# Altium schematic symbol library connector.SchLib: 62 symbols
Pins are listed as number, name and electrical type; pins without a type are passive.

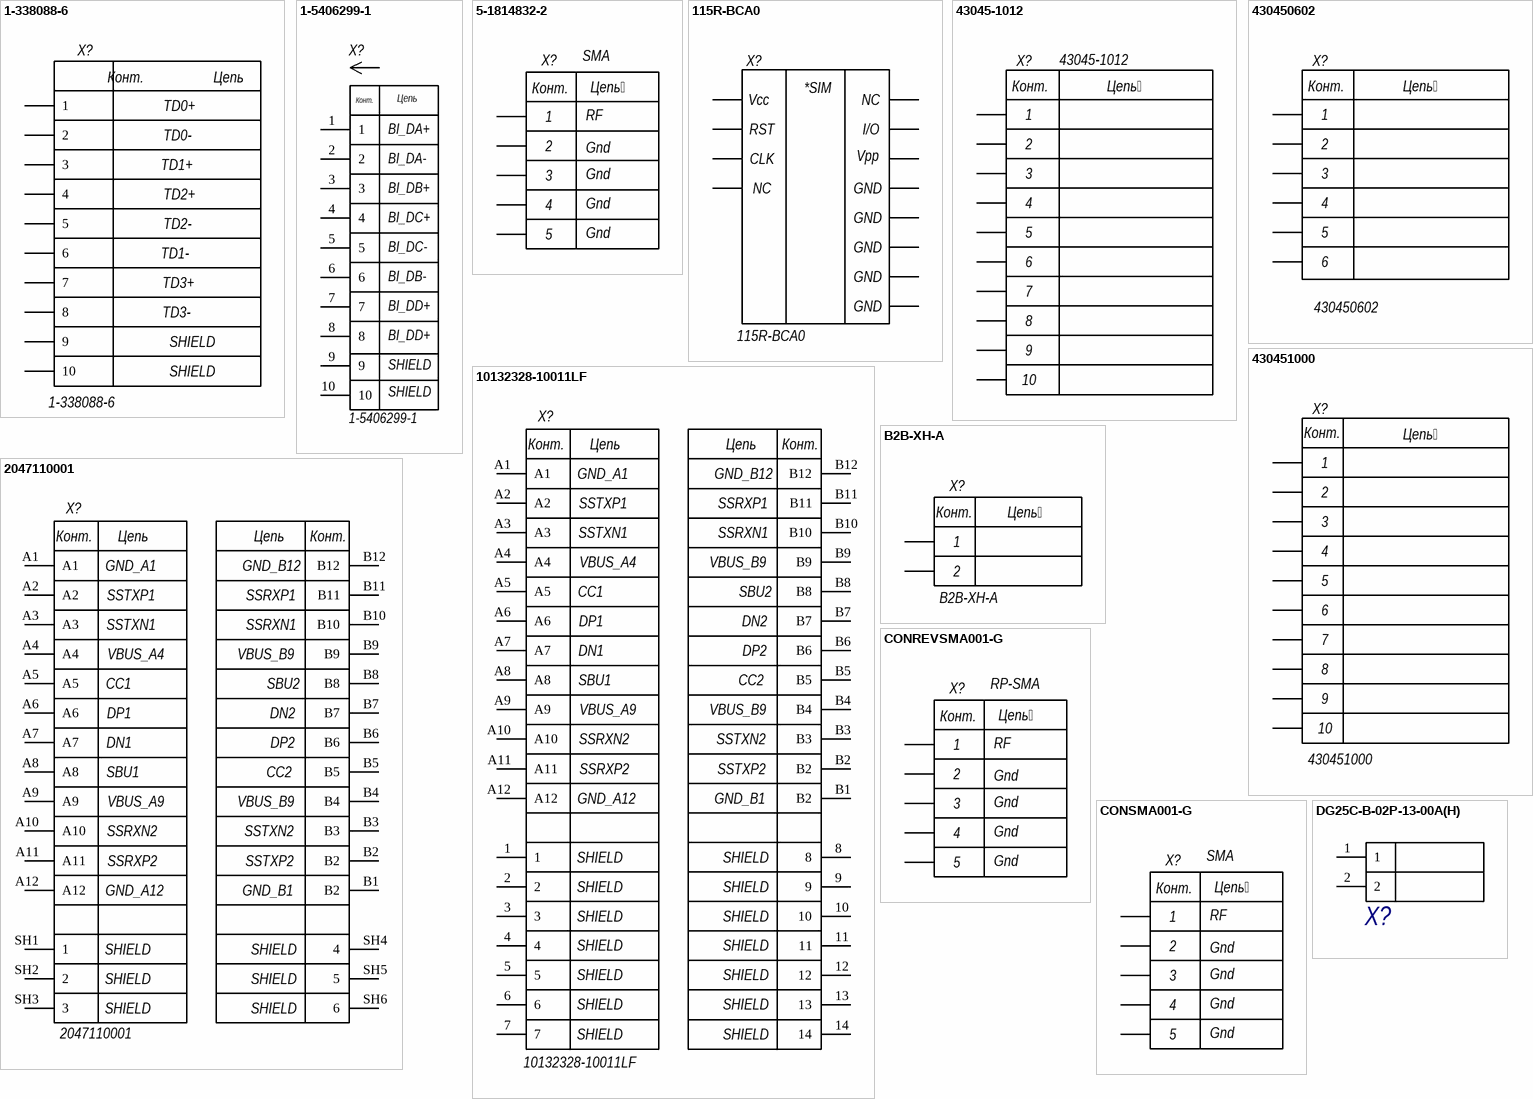
[diagram p0: symbols 1-338088-6 to DG25C-B-02P-13-00A(H)]

## 1-338088-6
designator X?
1-338088-6. RJ45 Connectors, RJ45, Single Port; Manufacturer: CONNFLY Elec; BOM1: RJ45 1-338088-6; ValueBOM: 1-338088-6   CONNFLY Elec; Part Number: 1-338088-6; BOM2: RJ45 1-338088-6; Value: 1-338088-6; Package: RJ-45
footprint AMPHENOL_RJE23-188-1317-T
pins: 1, 2, 3, 4, 5, 6, 7, 8, SH1 9, SH2 10
text: Конт.; Цепь; TD0+; TD0-; TD1+; TD2+; TD2-; TD1-; TD3+; TD3-; SHIELD

## 1-5406299-1
designator X?
1-5406299-1 Tab Down Single Port RJ45 Modular Jack Without LEDs LPJE160CNL; Published: 07.03.2013; Publisher: Andrew Danich; Type: Вилка; Vendor Code: *; Value: 1-5406299-1
footprint DS1126
footprint 5406299_TYCO
pins: 1, 2, 3, 4, 5, 6, 7, 8, 9, 10
text: Конт.; Цепь; BI_DA+; BI_DA-; BI_DB+; BI_DC+; BI_DC-; BI_DB-; BI_DD+; SHIELD

## 5-1814832-2
designator X?, comment SMA
SMA Connector, Jack, 50 ohm, Threaded, 3 GHz,; Part Number: 5-1814832-2; Manufacturer: TYCO; ValueBOM: 5-1814832-2   TYCO; Value: SMA; Package: SMA; BOM1: 5-1814832-2; BOM2: 5-1814832-2
footprint SMA (SMA JACK VERTICAL PCB 50 OHMS SMA-J/PCB)
pins: 1, 2, 3, 4, 5
text: Конт.; Цепь; RF; Gnd

## 115R-BCA0
designator X?
115R-BCA0, Slot: for MicroSIM, with flip cover; Manufacturer: Attend Technology; ValueBOM: 115R-BCA0   Attend Technology; Value: 115R-BCA0; Part Number: 115R-BCA0; Package: 115R-BCA0; BOM1: 115R-BCA0; BOM2: 115R-BCA0
footprint SIMSIM_HOLDER_115R-BCA0
pins: 1, 2, 3, 4, 5, 6, 7, 8, 9, 10, 11, 12
text: *SIM; Vcc; NC; RST; I/O; Vpp; CLK; GND

## 43045-1012
designator X?
Micro-Fit 3.0 Vertical Header, 3.00mm Pitch, Dual Row, 10 Circuits, with PCB Polarizing Peg, Glow-Wire Capable; Manufacturer: Molex; ValueBOM: 43045-1012   Molex; Value: 43045-1012; Part Number: 43045-1012; Package: 43045-1012; BOM1: 43045-1012; BOM2: 43045-1012
footprint 430451012
pins: 1, 2, 3, 4, 5, 6, 7, 8, 9, 10
text: Конт.; Цепь

## 10132328-10011LF
designator X?
10132328-10011LF, Conn USB 3.1 TypeC RCP 24 POS Solder ST SMD 24 Terminal 1 Port T/R; Manufacturer: Amphenol; ValueBOM: 10132328-10011LF   Amphenol; Part Number: 10132328-10011LF; Package: 10132328-10011LF; Value: 10132328-10011LF; BOM1: 10132328-10011LF; BOM2: 10132328-10011LF
footprint AMPHENOL_10132328-10011LF
pins: 1, 2, 3, 4, 5, 6, 7, 8, 9, 10, 11, 12, 13, 14, A1, A2, A3, A4, A5, A6, A7, A8, A9, A10, A11, A12, B1 B2, B2, B3, B4, B5, B6, B7, B8, B9, B10, B11, B12
text: Конт.; Цепь; GND_A1; GND_B12; SSTXP1; SSRXP1; SSTXN1; SSRXN1; VBUS_A4; VBUS_B9; CC1; SBU2; DP1; DN2; DN1; DP2; SBU1; CC2; VBUS_A9; SSRXN2; SSTXN2; SSRXP2; SSTXP2; GND_A12; GND_B1; SHIELD

## 430450602
designator X?
Conn Wire to Board HDR 6 POS 3mm Solder RA Thru-Hole Tray, MICRO-FIT HDR; Manufacturer: Molex; BOM1: Micro-Fit 3.0 430450602; ValueBOM: 430450602   Molex; Value: 430450602; Part Number: 430450602; Package: Micro-Fit 3.0; BOM2: Micro-Fit 3.0 430450602
footprint 43045-06(00,01,02,10)
pins: 1, 2, 3, 4, 5, 6
text: Конт.; Цепь

## 430451000
designator X?
Conn Wire to Board HDR 10 POS 3mm Solder RA Thru-Hole Tray, MICRO-FIT HDR; Manufacturer: Molex; BOM1: Micro-Fit 3.0 430451000; ValueBOM: 430451000   Molex; Value: 430451000; Part Number: 430451000; Package: Micro-Fit 3.0; BOM2: Micro-Fit 3.0 430451000
footprint 43045-10(00,01,02,10)
pins: 1, 2, 3, 4, 5, 6, 7, 8, 9, 10
text: Конт.; Цепь

## 2047110001
designator X?
USB-C (USB TYPE-C) USB 3.2 Gen 2 (USB 3.1 Gen 2, Superspeed + (USB 3.1)) Receptacle Connector 24 Position Surface Mount, Through Hole; Manufacturer: Molex; ValueBOM: 2047110001   Molex; Part Number: 2047110001; Package: 2047110001; Value: 2047110001; BOM1: 2047110001; BOM2: 2047110001
footprint MOLEX_2047110001
pins: A1, A2, A3, A4, A5, A6, A7, A8, A9, A10, A11, A12, B1 B2, B2, B3, B4, B5, B6, B7, B8, B9, B10, B11, B12, SH1 1, SH2 2, SH3 3, SH4 4, SH5 5, SH6 6
text: Конт.; Цепь; GND_A1; GND_B12; SSTXP1; SSRXP1; SSTXN1; SSRXN1; VBUS_A4; VBUS_B9; CC1; SBU2; DP1; DN2; DN1; DP2; SBU1; CC2; VBUS_A9; SSRXN2; SSTXN2; SSRXP2; SSTXP2; GND_A12; GND_B1; SHIELD

## B2B-XH-A
designator X?
Conn Shrouded Header (4 Sides) HDR 2 POS 2.5mm Solder ST Thru-Hole Box; Manufacturer: JST; BOM1: 2.5мм B2B-XH-A; ValueBOM: B2B-XH-A   JST; Value: B2B-XH-A; Part Number: B2B-XH-A; Package: 2.5мм; BOM2: 2.5мм B2B-XH-A
footprint B2BXH2LFSN
pins: 1, 2
text: Конт.; Цепь

## CONREVSMA001-G
designator X?, comment RP-SMA
RP-SMA Connector Receptacle, Male Pin 50 Ohms Through Hole Solder; Part Number: CONREVSMA001-G; Manufacturer: TE Connectivity; ValueBOM: CONREVSMA001-G   TE Connectivity; Value: RP-SMA; Package: RP-SMA; BOM1: CONREVSMA001-G; BOM2: CONREVSMA001-G
footprint RP-SMA (RP-SMA Connector Jack, Male Pin 50 Ohms Through Hole Solder)
pins: 1, 2, 3, 4, 5
text: Конт.; Цепь; RF; Gnd

## CONSMA001-G
designator X?, comment SMA
SMA Connector Receptacle, Female Socket 50 Ohms Through Hole Solder; Part Number: CONSMA001-G; Manufacturer: TE Connectivity; ValueBOM: CONSMA001-G   TE Connectivity; Value: SMA; Package: SMA; BOM1: CONSMA001-G; BOM2: CONSMA001-G
footprint SMA (SMA JACK VERTICAL PCB 50 OHMS SMA-J/PCB)
pins: 1, 2, 3, 4, 5
text: Конт.; Цепь; RF; Gnd

## DG25C-B-02P-13-00A(H)
designator X?, comment DG25C-B-02P  (value not drawn)
DG25C-B-02P-13-00A(H) 15A, 300V, 2 contacts, 7.62mm pitch, single row of contacts; Manufacturer: Degson; BOM1: 7.62 mm DG25C-B-02P-13-00A(H); ValueBOM: DG25C-B-02P-13-00A(H)   Degson; Part number: DG25C-B-02P-13-00A(H); Value: DG25C-B-02P; BOM2: 7.62 mm DG25C-B-02P-13-00A(H); Package: 7.62 mm
footprint KF7.62-2P-HOR
pins: 1, 2

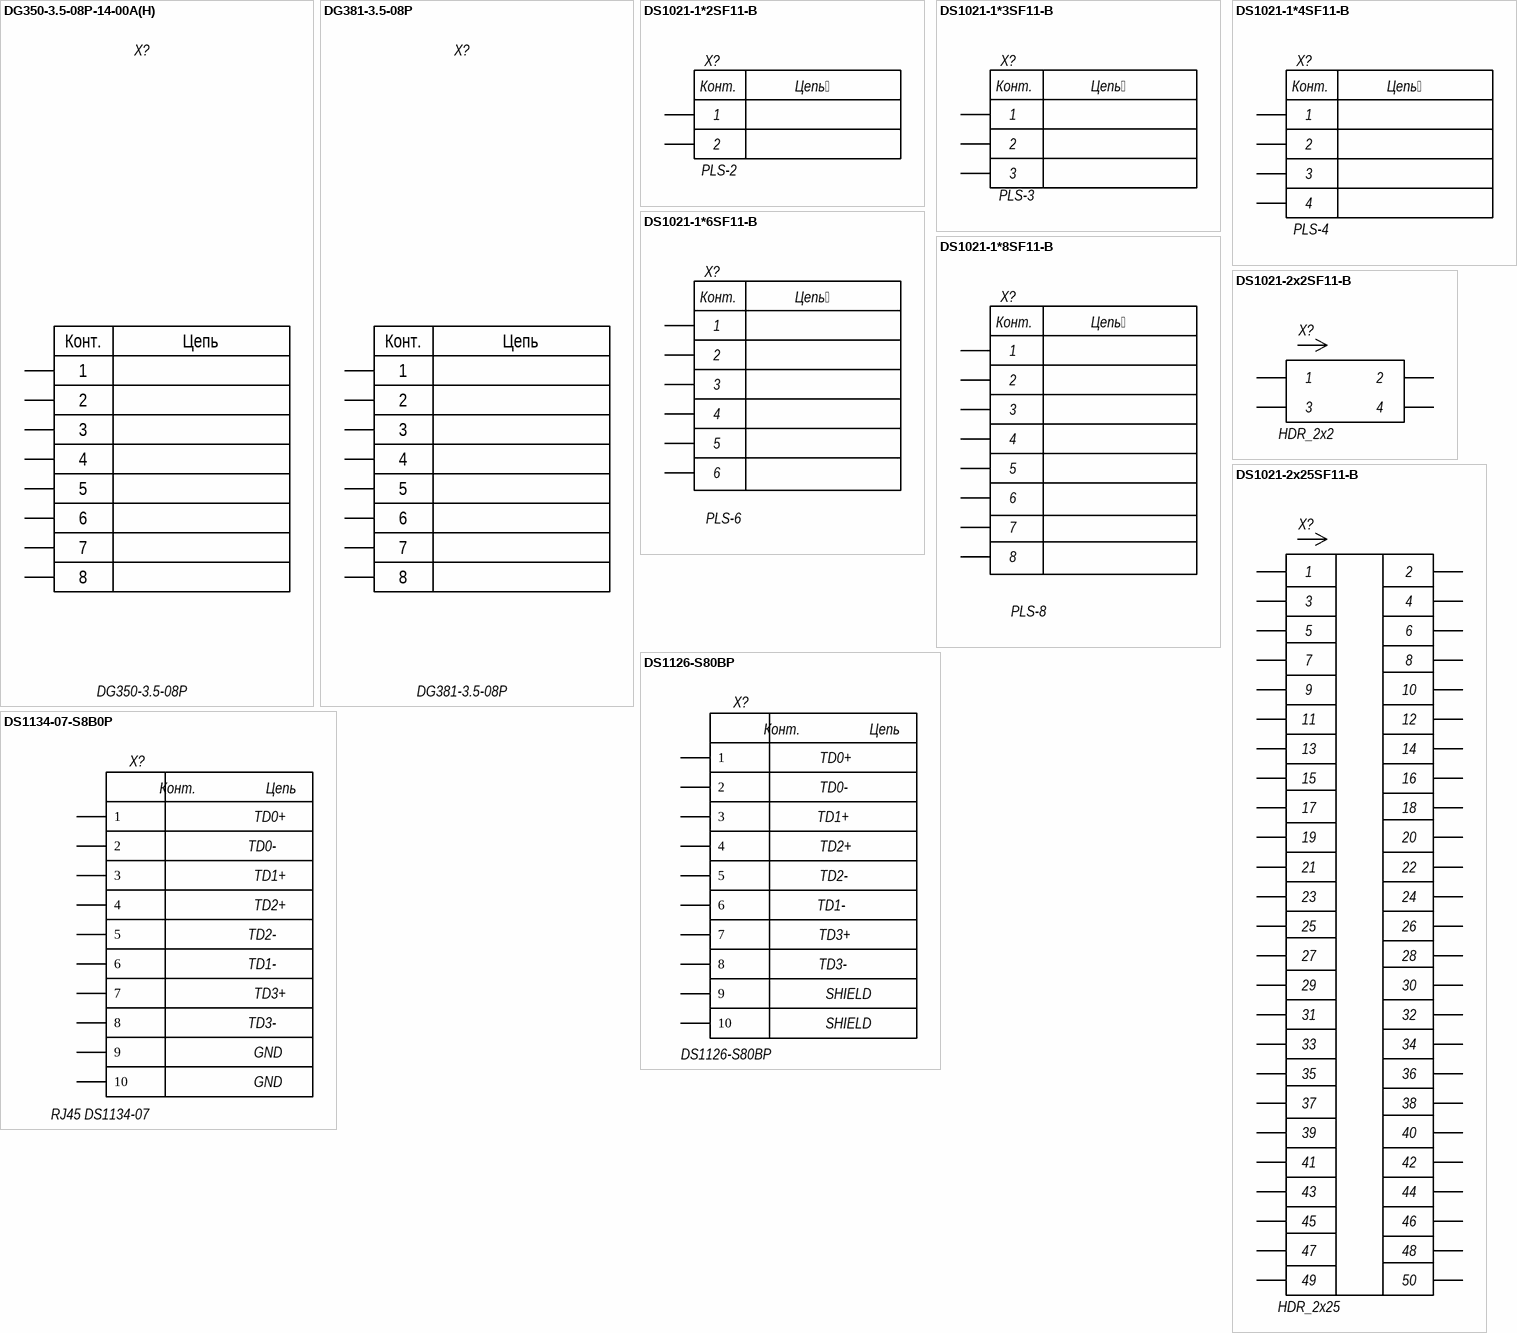
[diagram p1: symbols DG350-3.5-08P-14-00A(H) to DS1134-07-S8B0P]

## DG350-3.5-08P-14-00A(H)
designator X?, comment DG350-3.5-08P
DG350-3.5-08P-14-00A(H); Manufacturer: DEGSON; Connector Type: DG350; Mounting Angle: Vertical; Pitch: 3.5; Part Number: DG350-3.5-08P-14-00A(H); Value: DG350-3.5-08P; Package: 1x8-3.5mm; Temperature Range: -40…+105 °C; Mounting Style: Through Hole; Number of Rows: 1; Number of Pins: 8
footprint DG350-3.5-02P-14-00A(H)
pins: 1, 2, 3, 4, 5, 6, 7, 8
text: Конт.; Цепь

## DG381-3.5-08P
designator X?
Part Number: DG381-3.5-08P-14-00A(H); Manufacturer: DEGSON; Connector Type: DG381; Mounting Angle: Vertical; Pitch: 3.5; Value: DG381-3.5-08P; Package: 1x8-3.5mm; Temperature Range: -40…+105 °C; Mounting Style: Through Hole; Number of Rows: 1; Number of Pins: 8
footprint DG381-3.5-08P
pins: 1, 2, 3, 4, 5, 6, 7, 8
text: Конт.; Цепь

## DS1021-1*2SF11-B
designator X?, comment PLS-2
DS1021-1*2SF11-B; Manufacturer: Connfly electronic; BOM1: PLS-2 DS1021-1*2SF11-B; ValueBOM: DS1021-1*2SF11-B   Connfly electronic; Value: PLS-2; Part Number: DS1021-1*2SF11-B; Package: PLS-2; BOM2: PLS-2 DS1021-1*2SF11-B
footprint PLS-2
pins: 1, 2
text: Конт.; Цепь

## DS1021-1*3SF11-B
designator X?, comment PLS-3
DS1021-1*3SF11-B; Manufacturer: Connfly electronic; BOM1: PLS-3 DS1021-1*4SF11-B; BOM2: PLS-3 DS1021-1*3SF11-B; ValueBOM: DS1021-1*3SF11-B   Connfly electronic; Value: PLS-3; Part Number: DS1021-1*3SF11-B; Package: PLS-3
footprint PLS-3
pins: 1, 2, 3
text: Конт.; Цепь

## DS1021-1*4SF11-B
designator X?, comment PLS-4
DS1021-1*4SF11-B; Manufacturer: Connfly electronic; BOM1: PLS-4 DS1021-1*4SF11-B; ValueBOM: DS1021-1*4SF11-B   Connfly electronic; Value: PLS-4; Part Number: DS1021-1*4SF11-B; Package: PLS-4; BOM2: PLS-4 DS1021-1*4SF11-B
footprint PLS-4
pins: 1, 2, 3, 4
text: Конт.; Цепь

## DS1021-1*6SF11-B
designator X?, comment PLS-6
DS1021-1*6SF11-B; Manufacturer: Connfly electronic; BOM1: PLS-6 DS1021-1*6SF11-B; ValueBOM: DS1021-1*6SF11-B   Connfly electronic; Value: PLS-6; Part Number: DS1021-1*6SF11-B; Package: PLS-6; BOM2: PLS-6 DS1021-1*6SF11-B
footprint PLS-6
pins: 1, 2, 3, 4, 5, 6
text: Конт.; Цепь

## DS1021-1*8SF11-B
designator X?, comment PLS-8
DS1021-1*8SF11-B; Manufacturer: Connfly electronic; BOM1: PLS-8 DS1021-1*8SF11-B; ValueBOM: DS1021-1*8SF11-B   Connfly electronic; Value: PLS-8; Part Number: DS1021-1*8SF11-B; Package: PLS-8; BOM2: PLS-8 DS1021-1*8SF11-B
footprint PLS-8
pins: 1, 2, 3, 4, 5, 6, 7, 8
text: Конт.; Цепь

## DS1021-2x2SF11-B
designator X?, comment HDR_2x2
Through Hole 4P 2.54mm 2 2x2P Through Hole,P=2.54mm Pin Headers ROHS; Part Number: DS1021-2x2SF11-B; Manufacturer: CONNFLY Elec; ValueBOM: DS1021-2x2SF11-B   CONNFLY Elec; BOM1: DS1021-2x2SF11-B; BOM2: DS1021-2x2SF11-B; Value: HDR_2x2; Package: DS1021-2x2SF11-B
footprint DS1021-2x2 (PLD-4 (DS1021-2x2))
pins: 1, 2, 3, 4

## DS1021-2x25SF11-B
designator X?, comment HDR_2x25
Through Hole 50P 2.54mm 2 2x25P Through Hole,P=2.54mm Pin Headers ROHS; Part Number: DS1021-2x25SF11-B; Manufacturer: CONNFLY Elec; ValueBOM: DS1021-2x25SF11-B   CONNFLY Elec; BOM1: DS1021-2x25SF11-B; BOM2: DS1021-2x25SF11-B; Value: HDR_2x25; Package: DS1021-2x25SF11-B
footprint DS1021-2x50 (PLD-2x2 (DS1021-2x50))
pins: 1, 2, 3, 4, 5, 6, 7, 8, 9, 10, 11, 12, 13, 14, 15, 16, 17, 18, 19, 20, 21, 22, 23, 24, 25, 26, 27, 28, 29, 30, 31, 32, 33, 34, 35, 36, 37, 38, 39, 40, 41, 42, 43, 44, 45, 46, 47, 48, 49, 50

## DS1126-S80BP
designator X?
1-338088-6. RJ45 Connectors, RJ45, Single Port; Manufacturer: CONNFLY Elec; BOM1: RJ45 DS1126-S80BP; ValueBOM: DS1126-S80BP   CONNFLY Elec; Part Number: DS1126-S80BP; BOM2: RJ45 DS1126-S80BP; Value: DS1126-S80BP; Package: RJ-45
footprint DS1126-S80BP
pins: 1, 2, 3, 4, 5, 6, 7, 8, 9, 9 10
text: Конт.; Цепь; TD0+; TD0-; TD1+; TD2+; TD2-; TD1-; TD3+; TD3-; SHIELD

## DS1134-07-S8B0P
designator X?, comment RJ45 DS1134-07
RJ45 Shielded vertical socket DS1134-07-S8B0P for through-hole mounting board; Manufacturer: CONNFLY Elec; BOM1: RJ45 DS1134-07-S8B0P; ValueBOM: DS1134-07-S8B0P   CONNFLY Elec; Part Number: DS1134-07-S8B0P; BOM2: RJ45 DS1134-07-S8B0P; Value: RJ45 DS1134-07; Package: DS1134-07-S8B0P
footprint 6368150_TYCO
pins: 1, 2, 3, 4, 5, 6, 7, 8, 9, 10
text: Конт.; Цепь; TD0+; TD0-; TD1+; TD2+; TD2-; TD1-; TD3+; TD3-; GND

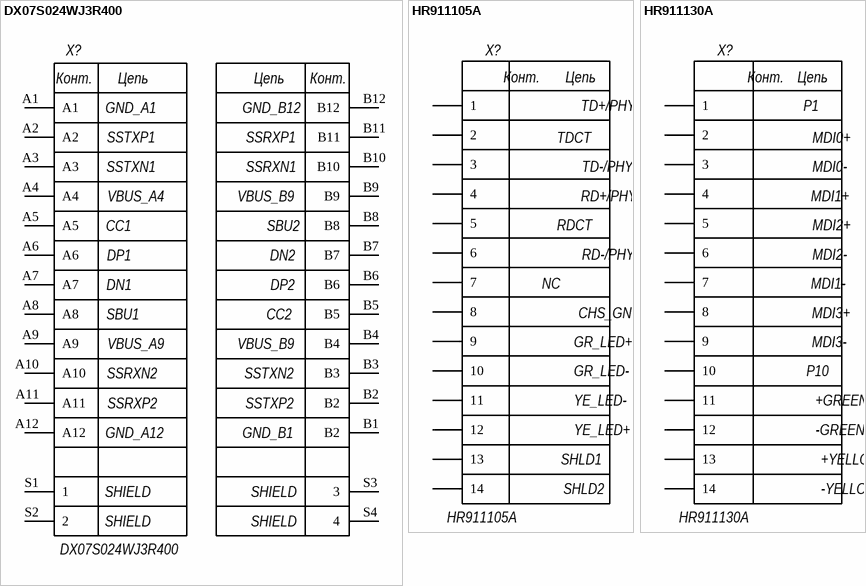
[diagram p2: symbols DX07S024WJ3R400 to HR911130A]

## DX07S024WJ3R400
designator X?
USB-C (USB TYPE-C) USB 3.2 Gen 2 (USB 3.1 Gen 2, Superspeed + (USB 3.1)) Receptacle Connector 24 Position Surface Mount, Through Hole; Manufacturer: JAE; ValueBOM: DX07S024WJ3R400   JAE; Part Number: DX07S024WJ3R400; Package: DX07S024WJ3R400; Value: DX07S024WJ3R400; BOM1: DX07S024WJ3R400; BOM2: DX07S024WJ3R400
footprint JAE_DX07S024WJ3R400
pins: A1, A2, A3, A4, A5, A6, A7, A8, A9, A10, A11, A12, B1 B2, B2, B3, B4, B5, B6, B7, B8, B9, B10, B11, B12, S1 1, S2 2, S3 3, S4 4
text: Конт.; Цепь; GND_A1; GND_B12; SSTXP1; SSRXP1; SSTXN1; SSRXN1; VBUS_A4; VBUS_B9; CC1; SBU2; DP1; DN2; DN1; DP2; SBU1; CC2; VBUS_A9; SSRXN2; SSTXN2; SSRXP2; SSTXP2; GND_A12; GND_B1; SHIELD

## HR911105A
designator X?
RJ45 Jack 1 With LED Through Hole Ethernet Connectors / Modular Connectors; Manufacturer: HanRun; BOM1: RJ45 HR911105A; ValueBOM: HR911105A   HanRun; Part Number: HR911105A; BOM2: RJ45 HR911105A; Value: HR911105A; Package: RJ45
footprint HR911105A
pins: 1, 2, 3, 4, 5, 6, 7, 8, 9, 10, 11, 12, 13, 14
text: Конт.; Цепь; TD+/PHY; TDCT; TD-/PHY; RD+/PHY; RDCT; RD-/PHY; NC; CHS_GND; GR_LED+; GR_LED-; YE_LED-; YE_LED+; SHLD1; SHLD2

## HR911130A
designator X?
RJ45 HR911130A Jack With LED Plugin Ethernet Connectors; Manufacturer: HanRun; ValueBOM: HR911130A   HanRun; Part Number: HR911130A; BOM1: RJ45 HR911130A; BOM2: RJ45 HR911130A; Value: HR911130A; Package: RJ45
footprint HR911130A
pins: 1, 2, 3, 4, 5, 6, 7, 8, 9, 10, 11, 12, 13, 14
text: Конт.; Цепь; P1; MDI0+; MDI0-; MDI1+; MDI2+; MDI2-; MDI1-; MDI3+; MDI3-; P10; +GREEN; -GREEN; +YELLOW; -YELLOW

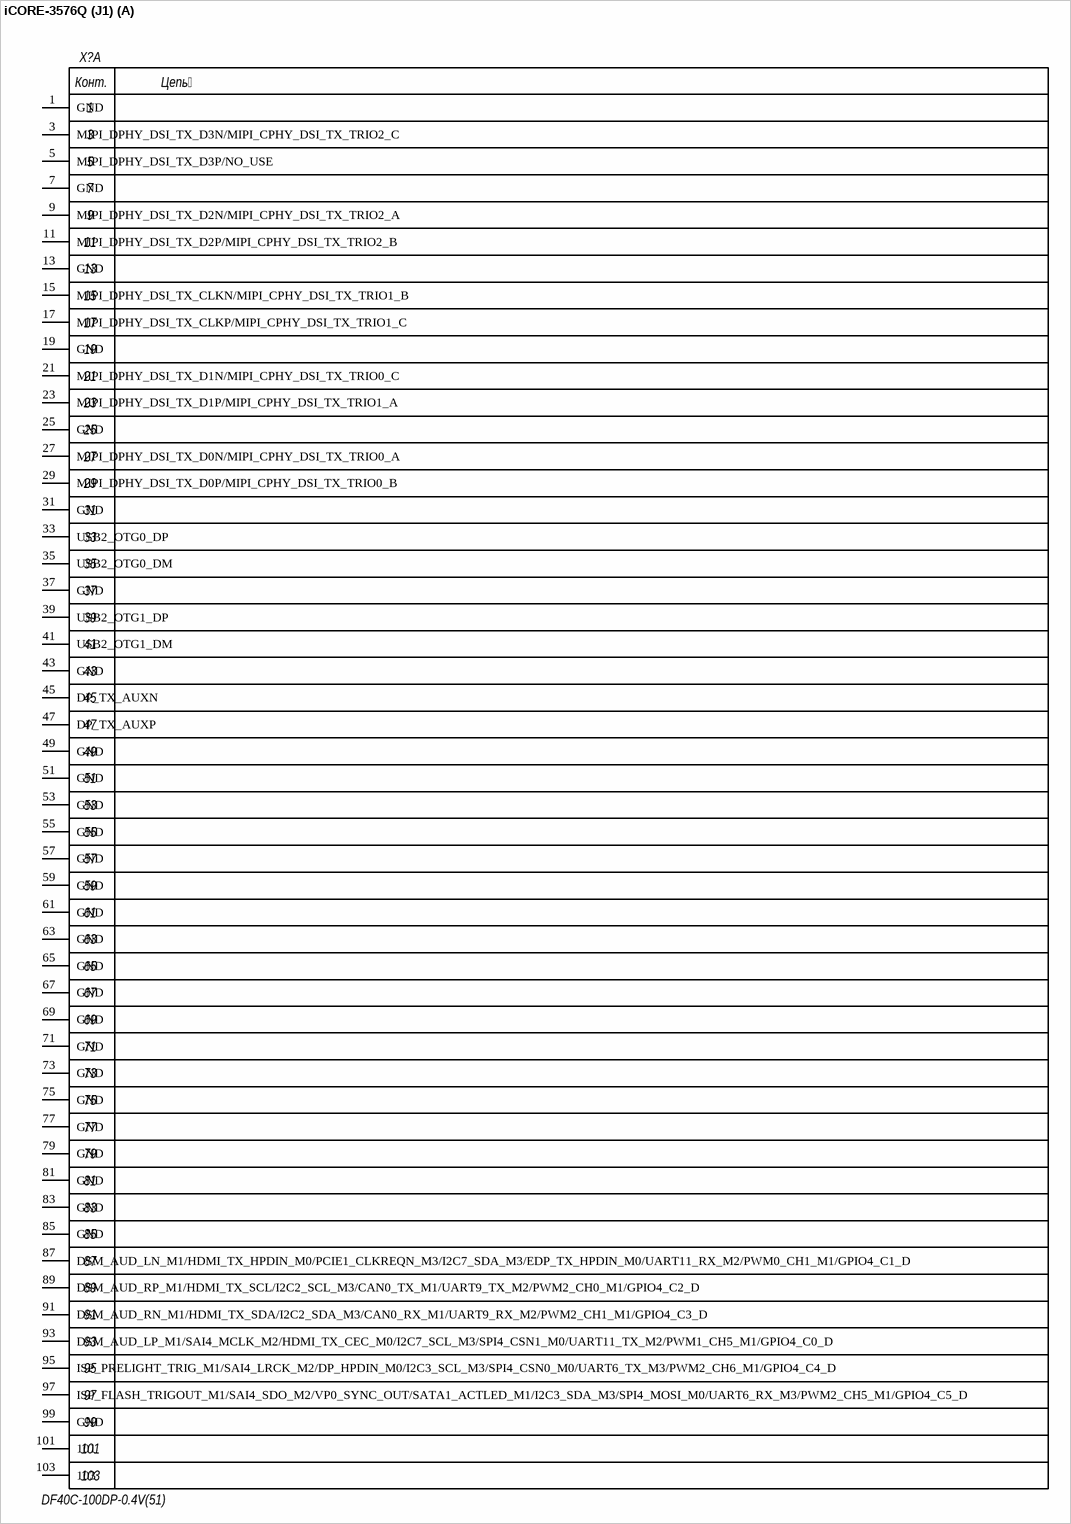
[diagram p3: symbol iCORE-3576Q (J1)]

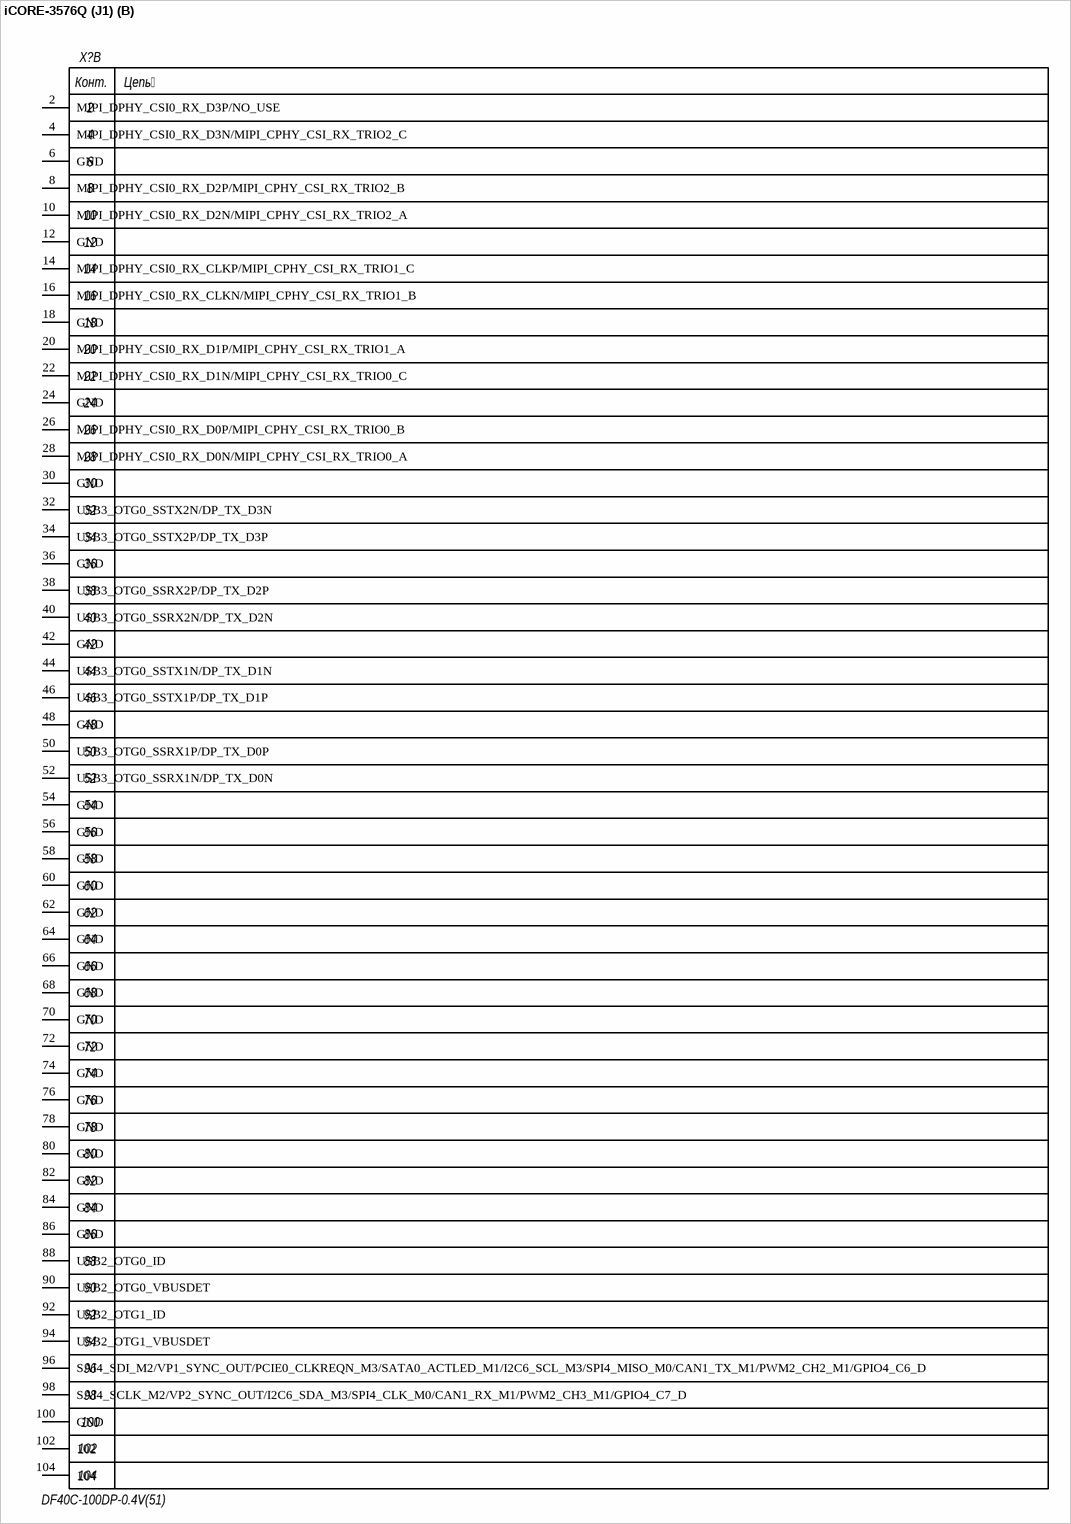
[diagram p4: symbol iCORE-3576Q (J1)]

## iCORE-3576Q (J1)
designator X?, comment DF40C-100DP-0.4V(51)
Manufacturer: Hirose Electric Group; ValueBOM: DF40C-100DP-0.4V(51)   Hirose Electric Group; Part Number: DF40C-100DP-0.4V(51); BOM1: DF40C-100DP-0.4V(51); BOM2: DF40C-100DP-0.4V(51); Value: DF40C-100DP-0.4V(51); Package: DF40C-100DP-0.4V(51)
footprint DF40C-100DP-0.4V(51)
part A pins: 1 GND, 3 MIPI_DPHY_DSI_TX_D3N/MIPI_CPHY_DSI_TX_TRIO2_C, 5 MIPI_DPHY_DSI_TX_D3P/NO_USE, 7 GND, 9 MIPI_DPHY_DSI_TX_D2N/MIPI_CPHY_DSI_TX_TRIO2_A, 11 MIPI_DPHY_DSI_TX_D2P/MIPI_CPHY_DSI_TX_TRIO2_B, 13 GND, 15 MIPI_DPHY_DSI_TX_CLKN/MIPI_CPHY_DSI_TX_TRIO1_B, 17 MIPI_DPHY_DSI_TX_CLKP/MIPI_CPHY_DSI_TX_TRIO1_C, 19 GND, 21 MIPI_DPHY_DSI_TX_D1N/MIPI_CPHY_DSI_TX_TRIO0_C, 23 MIPI_DPHY_DSI_TX_D1P/MIPI_CPHY_DSI_TX_TRIO1_A, 25 GND, 27 MIPI_DPHY_DSI_TX_D0N/MIPI_CPHY_DSI_TX_TRIO0_A, 29 MIPI_DPHY_DSI_TX_D0P/MIPI_CPHY_DSI_TX_TRIO0_B, 31 GND, 33 USB2_OTG0_DP, 35 USB2_OTG0_DM, 37 GND, 39 USB2_OTG1_DP, 41 USB2_OTG1_DM, 43 GND, 45 DP_TX_AUXN, 47 DP_TX_AUXP, 49 GND, 51 GND, 53 GND, 55 GND, 57 GND, 59 GND, 61 GND, 63 GND, 65 GND, 67 GND, 69 GND, 71 GND, 73 GND, 75 GND, 77 GND, 79 GND, 81 GND, 83 GND, 85 GND, 87 DSM_AUD_LN_M1/HDMI_TX_HPDIN_M0/PCIE1_CLKREQN_M3/I2C7_SDA_M3/EDP_TX_HPDIN_M0/UART11_RX_M2/PWM0_CH1_M1/GPIO4_C1_D, 89 DSM_AUD_RP_M1/HDMI_TX_SCL/I2C2_SCL_M3/CAN0_TX_M1/UART9_TX_M2/PWM2_CH0_M1/GPIO4_C2_D, 91 DSM_AUD_RN_M1/HDMI_TX_SDA/I2C2_SDA_M3/CAN0_RX_M1/UART9_RX_M2/PWM2_CH1_M1/GPIO4_C3_D, 93 DSM_AUD_LP_M1/SAI4_MCLK_M2/HDMI_TX_CEC_M0/I2C7_SCL_M3/SPI4_CSN1_M0/UART11_TX_M2/PWM1_CH5_M1/GPIO4_C0_D, 95 ISP_PRELIGHT_TRIG_M1/SAI4_LRCK_M2/DP_HPDIN_M0/I2C3_SCL_M3/SPI4_CSN0_M0/UART6_TX_M3/PWM2_CH6_M1/GPIO4_C4_D, 97 ISP_FLASH_TRIGOUT_M1/SAI4_SDO_M2/VP0_SYNC_OUT/SATA1_ACTLED_M1/I2C3_SDA_M3/SPI4_MOSI_M0/UART6_RX_M3/PWM2_CH5_M1/GPIO4_C5_D, 99 GND, 101, 103
part B pins: 2 MIPI_DPHY_CSI0_RX_D3P/NO_USE, 4 MIPI_DPHY_CSI0_RX_D3N/MIPI_CPHY_CSI_RX_TRIO2_C, 6 GND, 8 MIPI_DPHY_CSI0_RX_D2P/MIPI_CPHY_CSI_RX_TRIO2_B, 10 MIPI_DPHY_CSI0_RX_D2N/MIPI_CPHY_CSI_RX_TRIO2_A, 12 GND, 14 MIPI_DPHY_CSI0_RX_CLKP/MIPI_CPHY_CSI_RX_TRIO1_C, 16 MIPI_DPHY_CSI0_RX_CLKN/MIPI_CPHY_CSI_RX_TRIO1_B, 18 GND, 20 MIPI_DPHY_CSI0_RX_D1P/MIPI_CPHY_CSI_RX_TRIO1_A, 22 MIPI_DPHY_CSI0_RX_D1N/MIPI_CPHY_CSI_RX_TRIO0_C, 24 GND, 26 MIPI_DPHY_CSI0_RX_D0P/MIPI_CPHY_CSI_RX_TRIO0_B, 28 MIPI_DPHY_CSI0_RX_D0N/MIPI_CPHY_CSI_RX_TRIO0_A, 30 GND, 32 USB3_OTG0_SSTX2N/DP_TX_D3N, 34 USB3_OTG0_SSTX2P/DP_TX_D3P, 36 GND, 38 USB3_OTG0_SSRX2P/DP_TX_D2P, 40 USB3_OTG0_SSRX2N/DP_TX_D2N, 42 GND, 44 USB3_OTG0_SSTX1N/DP_TX_D1N, 46 USB3_OTG0_SSTX1P/DP_TX_D1P, 48 GND, 50 USB3_OTG0_SSRX1P/DP_TX_D0P, 52 USB3_OTG0_SSRX1N/DP_TX_D0N, 54 GND, 56 GND, 58 GND, 60 GND, 62 GND, 64 GND, 66 GND, 68 GND, 70 GND, 72 GND, 74 GND, 76 GND, 78 GND, 80 GND, 82 GND, 84 GND, 86 GND, 88 USB2_OTG0_ID, 90 USB2_OTG0_VBUSDET, 92 USB2_OTG1_ID, 94 USB2_OTG1_VBUSDET, 96 SAI4_SDI_M2/VP1_SYNC_OUT/PCIE0_CLKREQN_M3/SATA0_ACTLED_M1/I2C6_SCL_M3/SPI4_MISO_M0/CAN1_TX_M1/PWM2_CH2_M1/GPIO4_C6_D, 98 SAI4_SCLK_M2/VP2_SYNC_OUT/I2C6_SDA_M3/SPI4_CLK_M0/CAN1_RX_M1/PWM2_CH3_M1/GPIO4_C7_D, 100 GND, 102, 104
part A text: Конт.; Цепь
part B text: Конт.; Цепь

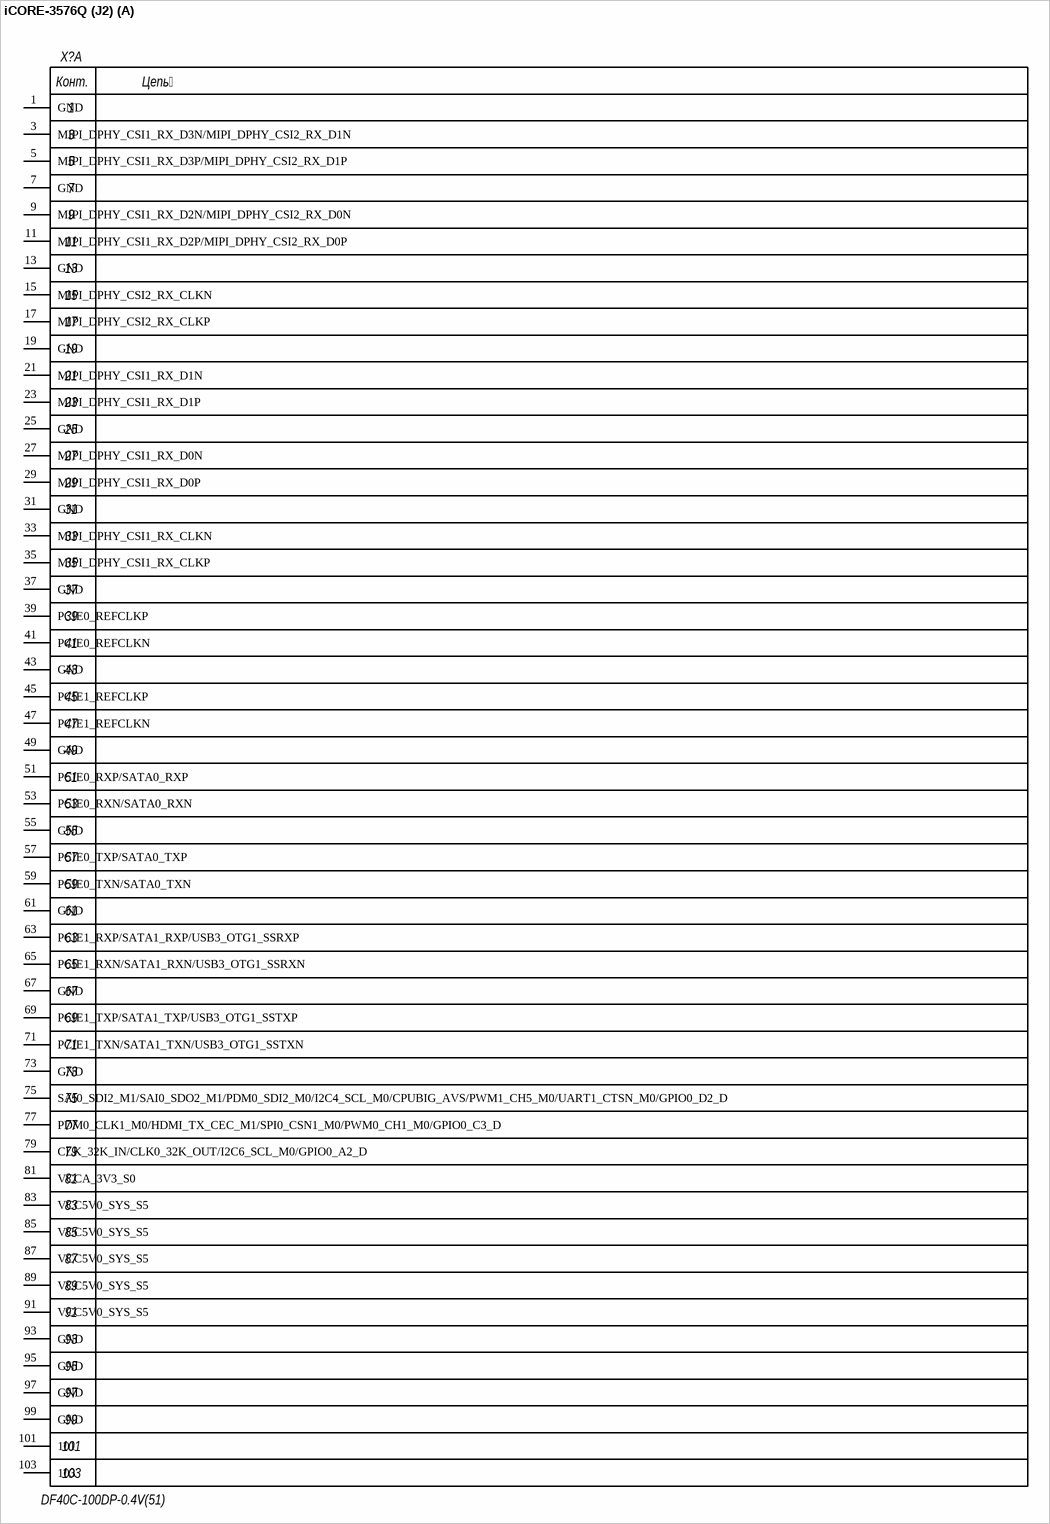
[diagram p5: symbol iCORE-3576Q (J2)]

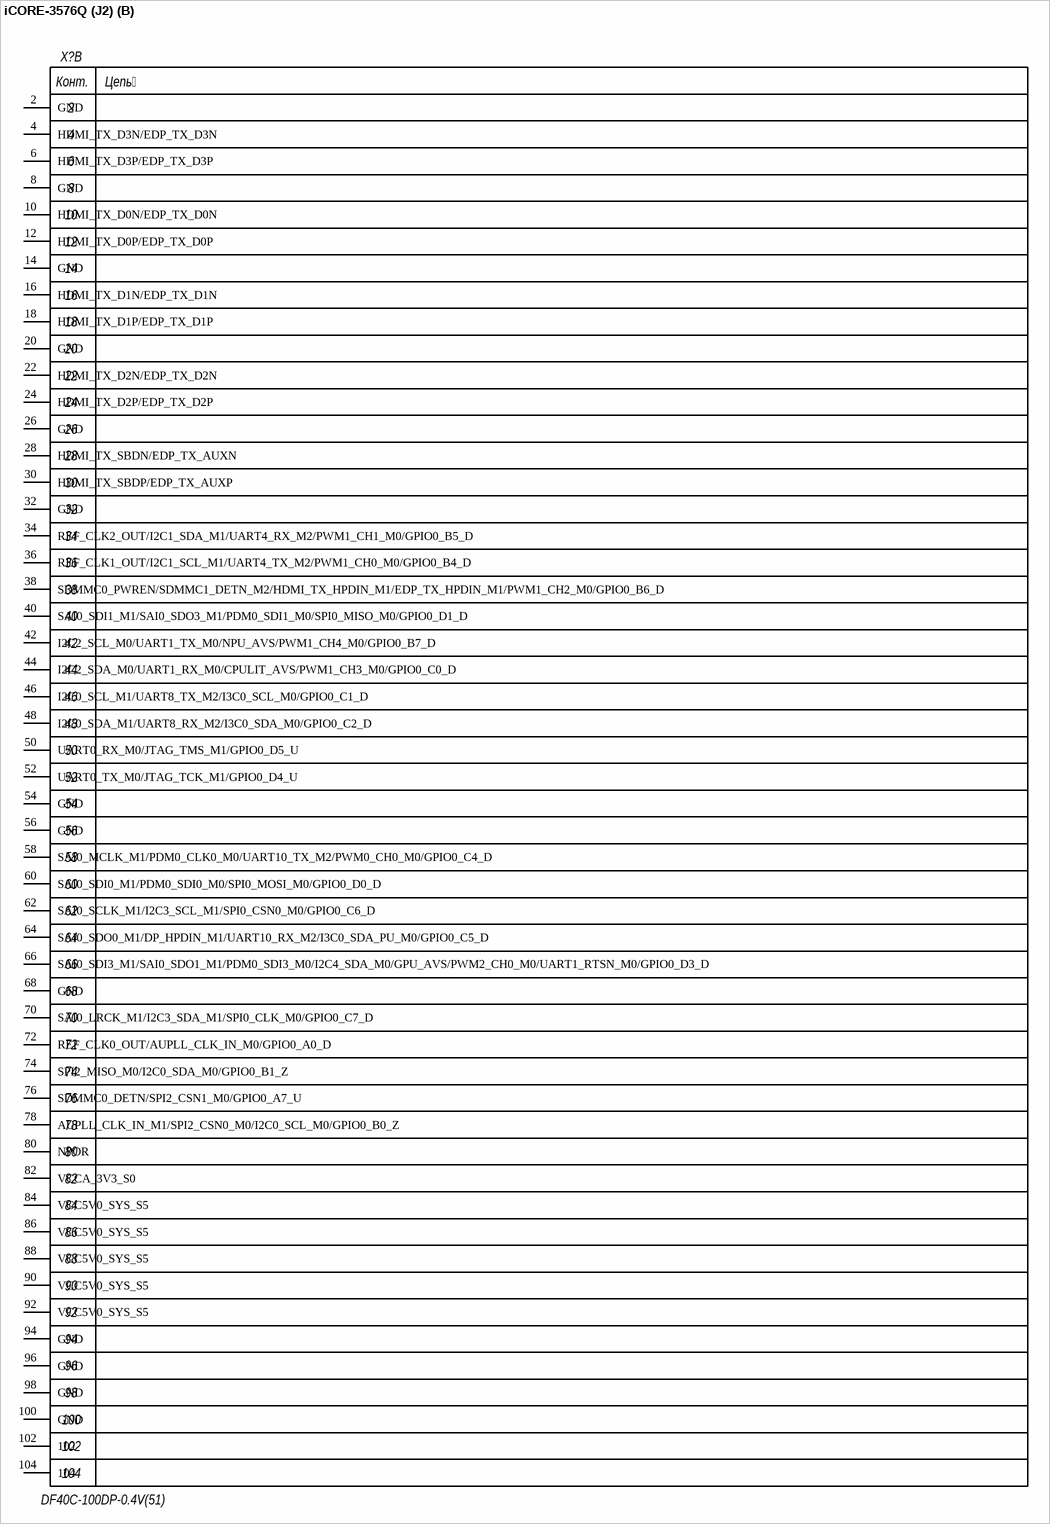
[diagram p6: symbol iCORE-3576Q (J2)]

## iCORE-3576Q (J2)
designator X?, comment DF40C-100DP-0.4V(51)
Manufacturer: Hirose Electric Group; ValueBOM: DF40C-100DP-0.4V(51)   Hirose Electric Group; Part Number: DF40C-100DP-0.4V(51); BOM1: DF40C-100DP-0.4V(51); BOM2: DF40C-100DP-0.4V(51); Value: DF40C-100DP-0.4V(51); Package: DF40C-100DP-0.4V(51)
footprint DF40C-100DP-0.4V(51)
part A pins: 1 GND, 3 MIPI_DPHY_CSI1_RX_D3N/MIPI_DPHY_CSI2_RX_D1N, 5 MIPI_DPHY_CSI1_RX_D3P/MIPI_DPHY_CSI2_RX_D1P, 7 GND, 9 MIPI_DPHY_CSI1_RX_D2N/MIPI_DPHY_CSI2_RX_D0N, 11 MIPI_DPHY_CSI1_RX_D2P/MIPI_DPHY_CSI2_RX_D0P, 13 GND, 15 MIPI_DPHY_CSI2_RX_CLKN, 17 MIPI_DPHY_CSI2_RX_CLKP, 19 GND, 21 MIPI_DPHY_CSI1_RX_D1N, 23 MIPI_DPHY_CSI1_RX_D1P, 25 GND, 27 MIPI_DPHY_CSI1_RX_D0N, 29 MIPI_DPHY_CSI1_RX_D0P, 31 GND, 33 MIPI_DPHY_CSI1_RX_CLKN, 35 MIPI_DPHY_CSI1_RX_CLKP, 37 GND, 39 PCIE0_REFCLKP, 41 PCIE0_REFCLKN, 43 GND, 45 PCIE1_REFCLKP, 47 PCIE1_REFCLKN, 49 GND, 51 PCIE0_RXP/SATA0_RXP, 53 PCIE0_RXN/SATA0_RXN, 55 GND, 57 PCIE0_TXP/SATA0_TXP, 59 PCIE0_TXN/SATA0_TXN, 61 GND, 63 PCIE1_RXP/SATA1_RXP/USB3_OTG1_SSRXP, 65 PCIE1_RXN/SATA1_RXN/USB3_OTG1_SSRXN, 67 GND, 69 PCIE1_TXP/SATA1_TXP/USB3_OTG1_SSTXP, 71 PCIE1_TXN/SATA1_TXN/USB3_OTG1_SSTXN, 73 GND, 75 SAI0_SDI2_M1/SAI0_SDO2_M1/PDM0_SDI2_M0/I2C4_SCL_M0/CPUBIG_AVS/PWM1_CH5_M0/UART1_CTSN_M0/GPIO0_D2_D, 77 PDM0_CLK1_M0/HDMI_TX_CEC_M1/SPI0_CSN1_M0/PWM0_CH1_M0/GPIO0_C3_D, 79 CLK_32K_IN/CLK0_32K_OUT/I2C6_SCL_M0/GPIO0_A2_D, 81 VCCA_3V3_S0, 83 VCC5V0_SYS_S5, 85 VCC5V0_SYS_S5, 87 VCC5V0_SYS_S5, 89 VCC5V0_SYS_S5, 91 VCC5V0_SYS_S5, 93 GND, 95 GND, 97 GND, 99 GND, 101, 103
part B pins: 2 GND, 4 HDMI_TX_D3N/EDP_TX_D3N, 6 HDMI_TX_D3P/EDP_TX_D3P, 8 GND, 10 HDMI_TX_D0N/EDP_TX_D0N, 12 HDMI_TX_D0P/EDP_TX_D0P, 14 GND, 16 HDMI_TX_D1N/EDP_TX_D1N, 18 HDMI_TX_D1P/EDP_TX_D1P, 20 GND, 22 HDMI_TX_D2N/EDP_TX_D2N, 24 HDMI_TX_D2P/EDP_TX_D2P, 26 GND, 28 HDMI_TX_SBDN/EDP_TX_AUXN, 30 HDMI_TX_SBDP/EDP_TX_AUXP, 32 GND, 34 REF_CLK2_OUT/I2C1_SDA_M1/UART4_RX_M2/PWM1_CH1_M0/GPIO0_B5_D, 36 REF_CLK1_OUT/I2C1_SCL_M1/UART4_TX_M2/PWM1_CH0_M0/GPIO0_B4_D, 38 SDMMC0_PWREN/SDMMC1_DETN_M2/HDMI_TX_HPDIN_M1/EDP_TX_HPDIN_M1/PWM1_CH2_M0/GPIO0_B6_D, 40 SAI0_SDI1_M1/SAI0_SDO3_M1/PDM0_SDI1_M0/SPI0_MISO_M0/GPIO0_D1_D, 42 I2C2_SCL_M0/UART1_TX_M0/NPU_AVS/PWM1_CH4_M0/GPIO0_B7_D, 44 I2C2_SDA_M0/UART1_RX_M0/CPULIT_AVS/PWM1_CH3_M0/GPIO0_C0_D, 46 I2C0_SCL_M1/UART8_TX_M2/I3C0_SCL_M0/GPIO0_C1_D, 48 I2C0_SDA_M1/UART8_RX_M2/I3C0_SDA_M0/GPIO0_C2_D, 50 UART0_RX_M0/JTAG_TMS_M1/GPIO0_D5_U, 52 UART0_TX_M0/JTAG_TCK_M1/GPIO0_D4_U, 54 GND, 56 GND, 58 SAI0_MCLK_M1/PDM0_CLK0_M0/UART10_TX_M2/PWM0_CH0_M0/GPIO0_C4_D, 60 SAI0_SDI0_M1/PDM0_SDI0_M0/SPI0_MOSI_M0/GPIO0_D0_D, 62 SAI0_SCLK_M1/I2C3_SCL_M1/SPI0_CSN0_M0/GPIO0_C6_D, 64 SAI0_SDO0_M1/DP_HPDIN_M1/UART10_RX_M2/I3C0_SDA_PU_M0/GPIO0_C5_D, 66 SAI0_SDI3_M1/SAI0_SDO1_M1/PDM0_SDI3_M0/I2C4_SDA_M0/GPU_AVS/PWM2_CH0_M0/UART1_RTSN_M0/GPIO0_D3_D, 68 GND, 70 SAI0_LRCK_M1/I2C3_SDA_M1/SPI0_CLK_M0/GPIO0_C7_D, 72 REF_CLK0_OUT/AUPLL_CLK_IN_M0/GPIO0_A0_D, 74 SPI2_MISO_M0/I2C0_SDA_M0/GPIO0_B1_Z, 76 SDMMC0_DETN/SPI2_CSN1_M0/GPIO0_A7_U, 78 AUPLL_CLK_IN_M1/SPI2_CSN0_M0/I2C0_SCL_M0/GPIO0_B0_Z, 80 NPOR, 82 VCCA_3V3_S0, 84 VCC5V0_SYS_S5, 86 VCC5V0_SYS_S5, 88 VCC5V0_SYS_S5, 90 VCC5V0_SYS_S5, 92 VCC5V0_SYS_S5, 94 GND, 96 GND, 98 GND, 100 GND, 102, 104
part A text: Конт.; Цепь
part B text: Конт.; Цепь

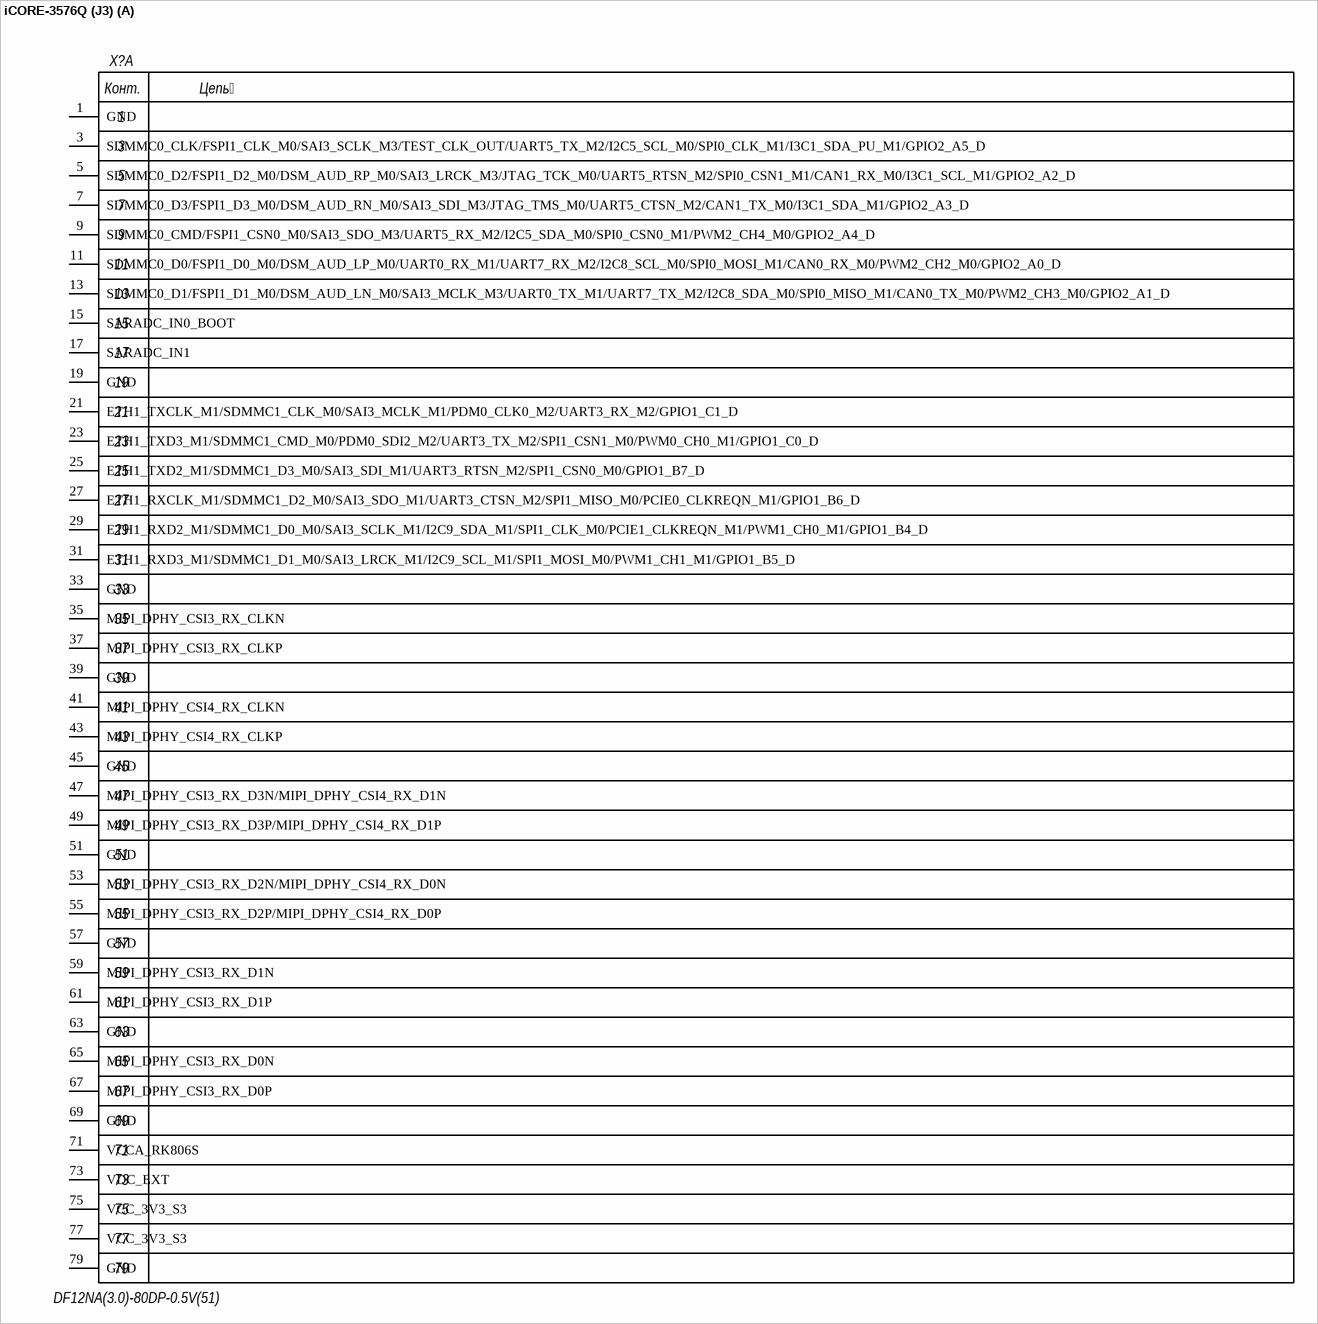
[diagram p7: symbol iCORE-3576Q (J3)]

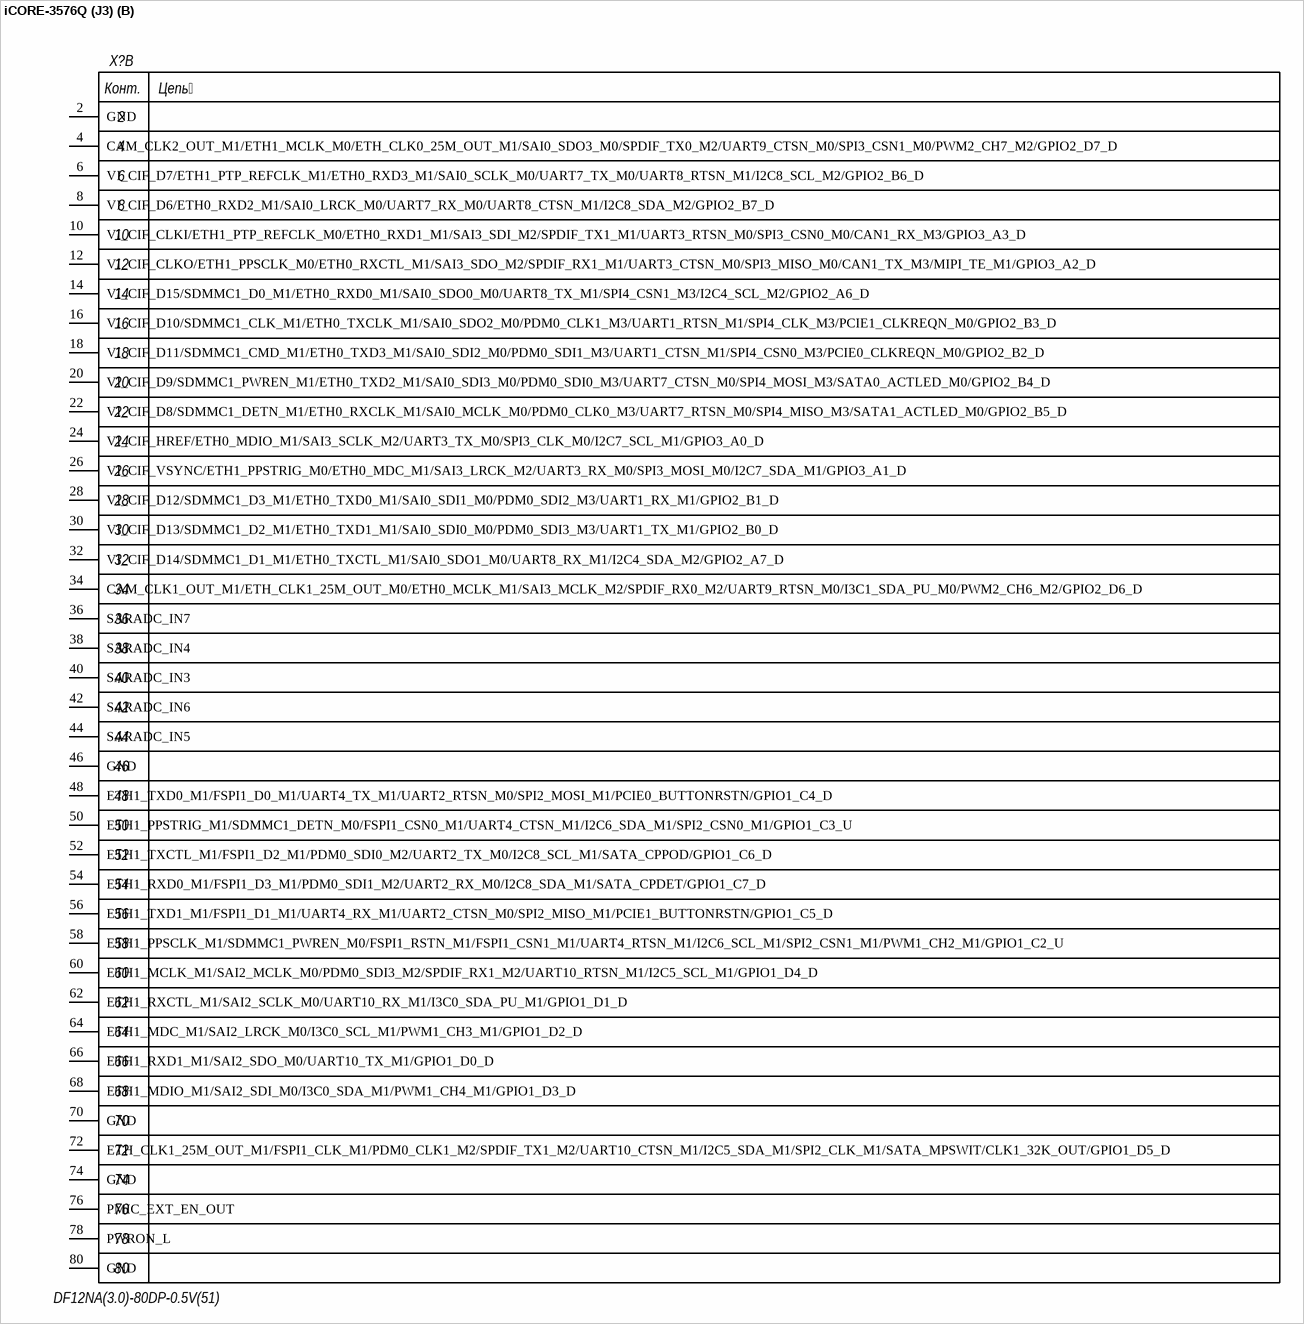
[diagram p8: symbol iCORE-3576Q (J3)]

## iCORE-3576Q (J3)
designator X?, comment DF12NA(3.0)-80DP-0.5V(51)
Manufacturer: Hirose Electric Group; ValueBOM: DF12NA(3.0)-80DP-0.5V(51)   Hirose Electric Group; Part Number: DF12NA(3.0)-80DP-0.5V(51); BOM1: DF12NA(3.0)-80DP-0.5V(51); BOM2: DF12NA(3.0)-80DP-0.5V(51); Value: DF12NA(3.0)-80DP-0.5V(51); Package: DF12NA(3.0)-80DP-0.5V(51)
footprint DF12NA(3.0)-80DP-0.5V(51)
part A pins: 1 GND, 3 SDMMC0_CLK/FSPI1_CLK_M0/SAI3_SCLK_M3/TEST_CLK_OUT/UART5_TX_M2/I2C5_SCL_M0/SPI0_CLK_M1/I3C1_SDA_PU_M1/GPIO2_A5_D, 5 SDMMC0_D2/FSPI1_D2_M0/DSM_AUD_RP_M0/SAI3_LRCK_M3/JTAG_TCK_M0/UART5_RTSN_M2/SPI0_CSN1_M1/CAN1_RX_M0/I3C1_SCL_M1/GPIO2_A2_D, 7 SDMMC0_D3/FSPI1_D3_M0/DSM_AUD_RN_M0/SAI3_SDI_M3/JTAG_TMS_M0/UART5_CTSN_M2/CAN1_TX_M0/I3C1_SDA_M1/GPIO2_A3_D, 9 SDMMC0_CMD/FSPI1_CSN0_M0/SAI3_SDO_M3/UART5_RX_M2/I2C5_SDA_M0/SPI0_CSN0_M1/PWM2_CH4_M0/GPIO2_A4_D, 11 SDMMC0_D0/FSPI1_D0_M0/DSM_AUD_LP_M0/UART0_RX_M1/UART7_RX_M2/I2C8_SCL_M0/SPI0_MOSI_M1/CAN0_RX_M0/PWM2_CH2_M0/GPIO2_A0_D, 13 SDMMC0_D1/FSPI1_D1_M0/DSM_AUD_LN_M0/SAI3_MCLK_M3/UART0_TX_M1/UART7_TX_M2/I2C8_SDA_M0/SPI0_MISO_M1/CAN0_TX_M0/PWM2_CH3_M0/GPIO2_A1_D, 15 SARADC_IN0_BOOT, 17 SARADC_IN1, 19 GND, 21 ETH1_TXCLK_M1/SDMMC1_CLK_M0/SAI3_MCLK_M1/PDM0_CLK0_M2/UART3_RX_M2/GPIO1_C1_D, 23 ETH1_TXD3_M1/SDMMC1_CMD_M0/PDM0_SDI2_M2/UART3_TX_M2/SPI1_CSN1_M0/PWM0_CH0_M1/GPIO1_C0_D, 25 ETH1_TXD2_M1/SDMMC1_D3_M0/SAI3_SDI_M1/UART3_RTSN_M2/SPI1_CSN0_M0/GPIO1_B7_D, 27 ETH1_RXCLK_M1/SDMMC1_D2_M0/SAI3_SDO_M1/UART3_CTSN_M2/SPI1_MISO_M0/PCIE0_CLKREQN_M1/GPIO1_B6_D, 29 ETH1_RXD2_M1/SDMMC1_D0_M0/SAI3_SCLK_M1/I2C9_SDA_M1/SPI1_CLK_M0/PCIE1_CLKREQN_M1/PWM1_CH0_M1/GPIO1_B4_D, 31 ETH1_RXD3_M1/SDMMC1_D1_M0/SAI3_LRCK_M1/I2C9_SCL_M1/SPI1_MOSI_M0/PWM1_CH1_M1/GPIO1_B5_D, 33 GND, 35 MIPI_DPHY_CSI3_RX_CLKN, 37 MIPI_DPHY_CSI3_RX_CLKP, 39 GND, 41 MIPI_DPHY_CSI4_RX_CLKN, 43 MIPI_DPHY_CSI4_RX_CLKP, 45 GND, 47 MIPI_DPHY_CSI3_RX_D3N/MIPI_DPHY_CSI4_RX_D1N, 49 MIPI_DPHY_CSI3_RX_D3P/MIPI_DPHY_CSI4_RX_D1P, 51 GND, 53 MIPI_DPHY_CSI3_RX_D2N/MIPI_DPHY_CSI4_RX_D0N, 55 MIPI_DPHY_CSI3_RX_D2P/MIPI_DPHY_CSI4_RX_D0P, 57 GND, 59 MIPI_DPHY_CSI3_RX_D1N, 61 MIPI_DPHY_CSI3_RX_D1P, 63 GND, 65 MIPI_DPHY_CSI3_RX_D0N, 67 MIPI_DPHY_CSI3_RX_D0P, 69 GND, 71 VCCA_RK806S, 73 VDC_EXT, 75 VCC_3V3_S3, 77 VCC_3V3_S3, 79 GND
part B pins: 2 GND, 4 CAM_CLK2_OUT_M1/ETH1_MCLK_M0/ETH_CLK0_25M_OUT_M1/SAI0_SDO3_M0/SPDIF_TX0_M2/UART9_CTSN_M0/SPI3_CSN1_M0/PWM2_CH7_M2/GPIO2_D7_D, 6 VI_CIF_D7/ETH1_PTP_REFCLK_M1/ETH0_RXD3_M1/SAI0_SCLK_M0/UART7_TX_M0/UART8_RTSN_M1/I2C8_SCL_M2/GPIO2_B6_D, 8 VI_CIF_D6/ETH0_RXD2_M1/SAI0_LRCK_M0/UART7_RX_M0/UART8_CTSN_M1/I2C8_SDA_M2/GPIO2_B7_D, 10 VI_CIF_CLKI/ETH1_PTP_REFCLK_M0/ETH0_RXD1_M1/SAI3_SDI_M2/SPDIF_TX1_M1/UART3_RTSN_M0/SPI3_CSN0_M0/CAN1_RX_M3/GPIO3_A3_D, 12 VI_CIF_CLKO/ETH1_PPSCLK_M0/ETH0_RXCTL_M1/SAI3_SDO_M2/SPDIF_RX1_M1/UART3_CTSN_M0/SPI3_MISO_M0/CAN1_TX_M3/MIPI_TE_M1/GPIO3_A2_D, 14 VI_CIF_D15/SDMMC1_D0_M1/ETH0_RXD0_M1/SAI0_SDO0_M0/UART8_TX_M1/SPI4_CSN1_M3/I2C4_SCL_M2/GPIO2_A6_D, 16 VI_CIF_D10/SDMMC1_CLK_M1/ETH0_TXCLK_M1/SAI0_SDO2_M0/PDM0_CLK1_M3/UART1_RTSN_M1/SPI4_CLK_M3/PCIE1_CLKREQN_M0/GPIO2_B3_D, 18 VI_CIF_D11/SDMMC1_CMD_M1/ETH0_TXD3_M1/SAI0_SDI2_M0/PDM0_SDI1_M3/UART1_CTSN_M1/SPI4_CSN0_M3/PCIE0_CLKREQN_M0/GPIO2_B2_D, 20 VI_CIF_D9/SDMMC1_PWREN_M1/ETH0_TXD2_M1/SAI0_SDI3_M0/PDM0_SDI0_M3/UART7_CTSN_M0/SPI4_MOSI_M3/SATA0_ACTLED_M0/GPIO2_B4_D, 22 VI_CIF_D8/SDMMC1_DETN_M1/ETH0_RXCLK_M1/SAI0_MCLK_M0/PDM0_CLK0_M3/UART7_RTSN_M0/SPI4_MISO_M3/SATA1_ACTLED_M0/GPIO2_B5_D, 24 VI_CIF_HREF/ETH0_MDIO_M1/SAI3_SCLK_M2/UART3_TX_M0/SPI3_CLK_M0/I2C7_SCL_M1/GPIO3_A0_D, 26 VI_CIF_VSYNC/ETH1_PPSTRIG_M0/ETH0_MDC_M1/SAI3_LRCK_M2/UART3_RX_M0/SPI3_MOSI_M0/I2C7_SDA_M1/GPIO3_A1_D, 28 VI_CIF_D12/SDMMC1_D3_M1/ETH0_TXD0_M1/SAI0_SDI1_M0/PDM0_SDI2_M3/UART1_RX_M1/GPIO2_B1_D, 30 VI_CIF_D13/SDMMC1_D2_M1/ETH0_TXD1_M1/SAI0_SDI0_M0/PDM0_SDI3_M3/UART1_TX_M1/GPIO2_B0_D, 32 VI_CIF_D14/SDMMC1_D1_M1/ETH0_TXCTL_M1/SAI0_SDO1_M0/UART8_RX_M1/I2C4_SDA_M2/GPIO2_A7_D, 34 CAM_CLK1_OUT_M1/ETH_CLK1_25M_OUT_M0/ETH0_MCLK_M1/SAI3_MCLK_M2/SPDIF_RX0_M2/UART9_RTSN_M0/I3C1_SDA_PU_M0/PWM2_CH6_M2/GPIO2_D6_D, 36 SARADC_IN7, 38 SARADC_IN4, 40 SARADC_IN3, 42 SARADC_IN6, 44 SARADC_IN5, 46 GND, 48 ETH1_TXD0_M1/FSPI1_D0_M1/UART4_TX_M1/UART2_RTSN_M0/SPI2_MOSI_M1/PCIE0_BUTTONRSTN/GPIO1_C4_D, 50 ETH1_PPSTRIG_M1/SDMMC1_DETN_M0/FSPI1_CSN0_M1/UART4_CTSN_M1/I2C6_SDA_M1/SPI2_CSN0_M1/GPIO1_C3_U, 52 ETH1_TXCTL_M1/FSPI1_D2_M1/PDM0_SDI0_M2/UART2_TX_M0/I2C8_SCL_M1/SATA_CPPOD/GPIO1_C6_D, 54 ETH1_RXD0_M1/FSPI1_D3_M1/PDM0_SDI1_M2/UART2_RX_M0/I2C8_SDA_M1/SATA_CPDET/GPIO1_C7_D, 56 ETH1_TXD1_M1/FSPI1_D1_M1/UART4_RX_M1/UART2_CTSN_M0/SPI2_MISO_M1/PCIE1_BUTTONRSTN/GPIO1_C5_D, 58 ETH1_PPSCLK_M1/SDMMC1_PWREN_M0/FSPI1_RSTN_M1/FSPI1_CSN1_M1/UART4_RTSN_M1/I2C6_SCL_M1/SPI2_CSN1_M1/PWM1_CH2_M1/GPIO1_C2_U, 60 ETH1_MCLK_M1/SAI2_MCLK_M0/PDM0_SDI3_M2/SPDIF_RX1_M2/UART10_RTSN_M1/I2C5_SCL_M1/GPIO1_D4_D, 62 ETH1_RXCTL_M1/SAI2_SCLK_M0/UART10_RX_M1/I3C0_SDA_PU_M1/GPIO1_D1_D, 64 ETH1_MDC_M1/SAI2_LRCK_M0/I3C0_SCL_M1/PWM1_CH3_M1/GPIO1_D2_D, 66 ETH1_RXD1_M1/SAI2_SDO_M0/UART10_TX_M1/GPIO1_D0_D, 68 ETH1_MDIO_M1/SAI2_SDI_M0/I3C0_SDA_M1/PWM1_CH4_M1/GPIO1_D3_D, 70 GND, 72 ETH_CLK1_25M_OUT_M1/FSPI1_CLK_M1/PDM0_CLK1_M2/SPDIF_TX1_M2/UART10_CTSN_M1/I2C5_SDA_M1/SPI2_CLK_M1/SATA_MPSWIT/CLK1_32K_OUT/GPIO1_D5_D, 74 GND, 76 PMIC_EXT_EN_OUT, 78 PWRON_L, 80 GND
part A text: Конт.; Цепь
part B text: Конт.; Цепь

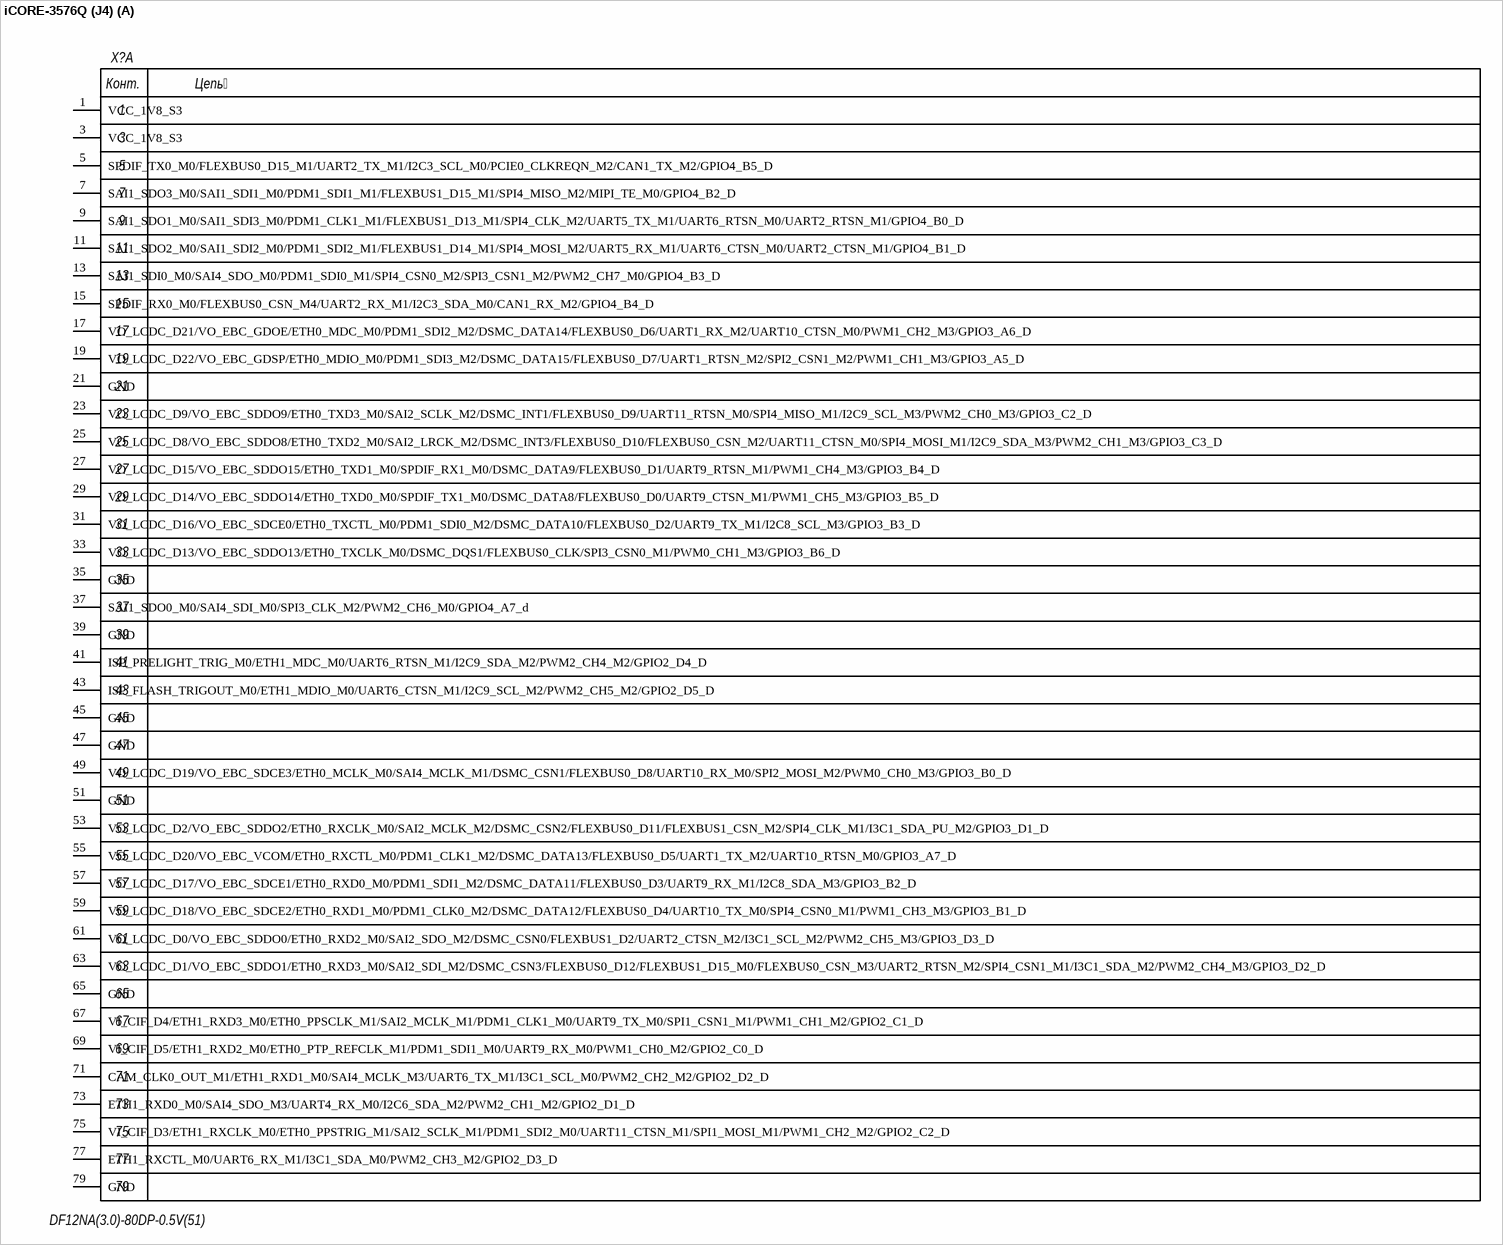
[diagram p9: symbol iCORE-3576Q (J4)]

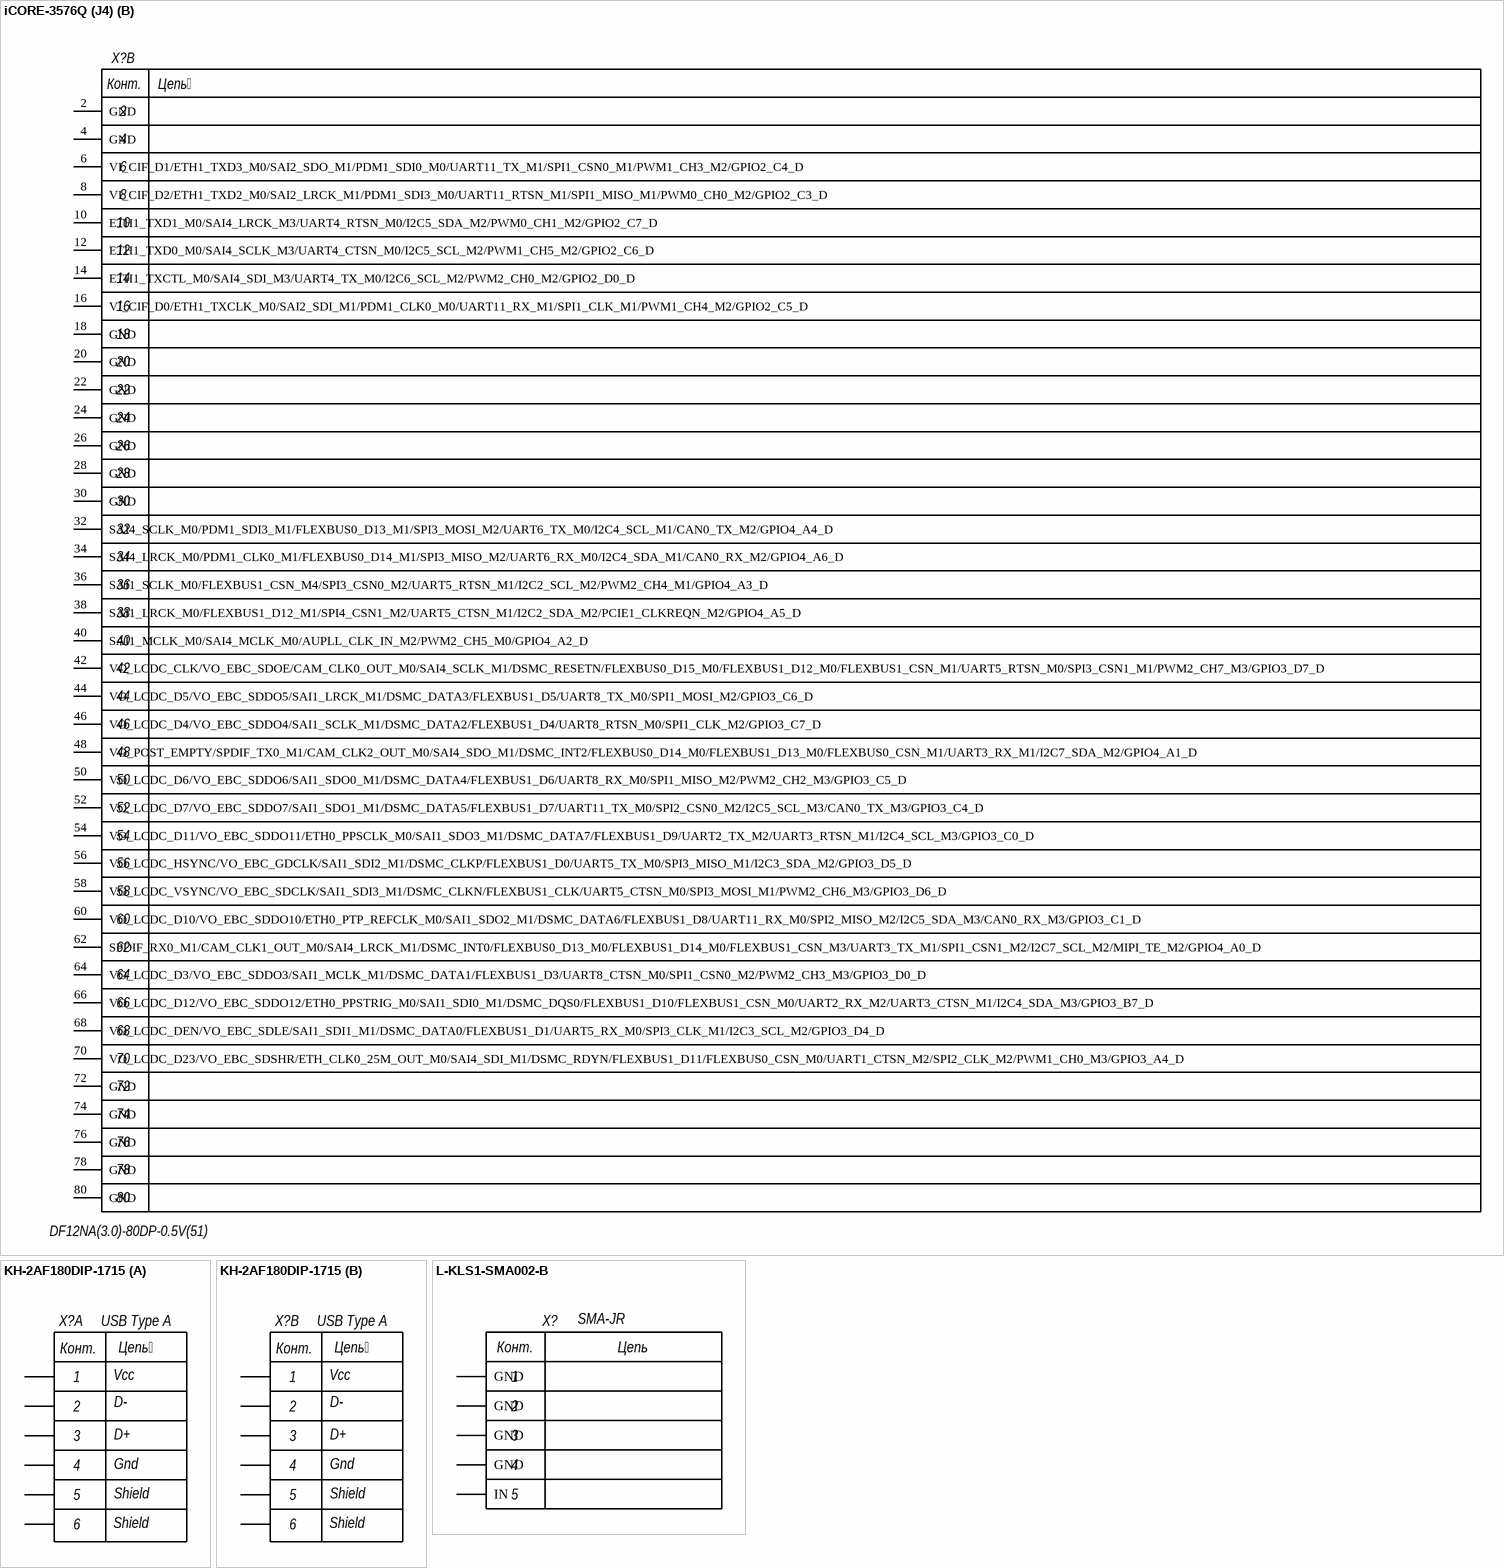
[diagram p10: symbols iCORE-3576Q (J4) to L-KLS1-SMA002-B]

## iCORE-3576Q (J4)
designator X?, comment DF12NA(3.0)-80DP-0.5V(51)
Manufacturer: Hirose Electric Group; ValueBOM: DF12NA(3.0)-80DP-0.5V(51)   Hirose Electric Group; Part Number: DF12NA(3.0)-80DP-0.5V(51); BOM1: DF12NA(3.0)-80DP-0.5V(51); BOM2: DF12NA(3.0)-80DP-0.5V(51); Value: DF12NA(3.0)-80DP-0.5V(51); Package: DF12NA(3.0)-80DP-0.5V(51)
footprint DF12NA(3.0)-80DP-0.5V(51)
part A pins: 1 VCC_1V8_S3, 3 VCC_1V8_S3, 5 SPDIF_TX0_M0/FLEXBUS0_D15_M1/UART2_TX_M1/I2C3_SCL_M0/PCIE0_CLKREQN_M2/CAN1_TX_M2/GPIO4_B5_D, 7 SAI1_SDO3_M0/SAI1_SDI1_M0/PDM1_SDI1_M1/FLEXBUS1_D15_M1/SPI4_MISO_M2/MIPI_TE_M0/GPIO4_B2_D, 9 SAI1_SDO1_M0/SAI1_SDI3_M0/PDM1_CLK1_M1/FLEXBUS1_D13_M1/SPI4_CLK_M2/UART5_TX_M1/UART6_RTSN_M0/UART2_RTSN_M1/GPIO4_B0_D, 11 SAI1_SDO2_M0/SAI1_SDI2_M0/PDM1_SDI2_M1/FLEXBUS1_D14_M1/SPI4_MOSI_M2/UART5_RX_M1/UART6_CTSN_M0/UART2_CTSN_M1/GPIO4_B1_D, 13 SAI1_SDI0_M0/SAI4_SDO_M0/PDM1_SDI0_M1/SPI4_CSN0_M2/SPI3_CSN1_M2/PWM2_CH7_M0/GPIO4_B3_D, 15 SPDIF_RX0_M0/FLEXBUS0_CSN_M4/UART2_RX_M1/I2C3_SDA_M0/CAN1_RX_M2/GPIO4_B4_D, 17 VO_LCDC_D21/VO_EBC_GDOE/ETH0_MDC_M0/PDM1_SDI2_M2/DSMC_DATA14/FLEXBUS0_D6/UART1_RX_M2/UART10_CTSN_M0/PWM1_CH2_M3/GPIO3_A6_D, 19 VO_LCDC_D22/VO_EBC_GDSP/ETH0_MDIO_M0/PDM1_SDI3_M2/DSMC_DATA15/FLEXBUS0_D7/UART1_RTSN_M2/SPI2_CSN1_M2/PWM1_CH1_M3/GPIO3_A5_D, 21 GND, 23 VO_LCDC_D9/VO_EBC_SDDO9/ETH0_TXD3_M0/SAI2_SCLK_M2/DSMC_INT1/FLEXBUS0_D9/UART11_RTSN_M0/SPI4_MISO_M1/I2C9_SCL_M3/PWM2_CH0_M3/GPIO3_C2_D, 25 VO_LCDC_D8/VO_EBC_SDDO8/ETH0_TXD2_M0/SAI2_LRCK_M2/DSMC_INT3/FLEXBUS0_D10/FLEXBUS0_CSN_M2/UART11_CTSN_M0/SPI4_MOSI_M1/I2C9_SDA_M3/PWM2_CH1_M3/GPIO3_C3_D, 27 VO_LCDC_D15/VO_EBC_SDDO15/ETH0_TXD1_M0/SPDIF_RX1_M0/DSMC_DATA9/FLEXBUS0_D1/UART9_RTSN_M1/PWM1_CH4_M3/GPIO3_B4_D, 29 VO_LCDC_D14/VO_EBC_SDDO14/ETH0_TXD0_M0/SPDIF_TX1_M0/DSMC_DATA8/FLEXBUS0_D0/UART9_CTSN_M1/PWM1_CH5_M3/GPIO3_B5_D, 31 VO_LCDC_D16/VO_EBC_SDCE0/ETH0_TXCTL_M0/PDM1_SDI0_M2/DSMC_DATA10/FLEXBUS0_D2/UART9_TX_M1/I2C8_SCL_M3/GPIO3_B3_D, 33 VO_LCDC_D13/VO_EBC_SDDO13/ETH0_TXCLK_M0/DSMC_DQS1/FLEXBUS0_CLK/SPI3_CSN0_M1/PWM0_CH1_M3/GPIO3_B6_D, 35 GND, 37 SAI1_SDO0_M0/SAI4_SDI_M0/SPI3_CLK_M2/PWM2_CH6_M0/GPIO4_A7_d, 39 GND, 41 ISP_PRELIGHT_TRIG_M0/ETH1_MDC_M0/UART6_RTSN_M1/I2C9_SDA_M2/PWM2_CH4_M2/GPIO2_D4_D, 43 ISP_FLASH_TRIGOUT_M0/ETH1_MDIO_M0/UART6_CTSN_M1/I2C9_SCL_M2/PWM2_CH5_M2/GPIO2_D5_D, 45 GND, 47 GND, 49 VO_LCDC_D19/VO_EBC_SDCE3/ETH0_MCLK_M0/SAI4_MCLK_M1/DSMC_CSN1/FLEXBUS0_D8/UART10_RX_M0/SPI2_MOSI_M2/PWM0_CH0_M3/GPIO3_B0_D, 51 GND, 53 VO_LCDC_D2/VO_EBC_SDDO2/ETH0_RXCLK_M0/SAI2_MCLK_M2/DSMC_CSN2/FLEXBUS0_D11/FLEXBUS1_CSN_M2/SPI4_CLK_M1/I3C1_SDA_PU_M2/GPIO3_D1_D, 55 VO_LCDC_D20/VO_EBC_VCOM/ETH0_RXCTL_M0/PDM1_CLK1_M2/DSMC_DATA13/FLEXBUS0_D5/UART1_TX_M2/UART10_RTSN_M0/GPIO3_A7_D, 57 VO_LCDC_D17/VO_EBC_SDCE1/ETH0_RXD0_M0/PDM1_SDI1_M2/DSMC_DATA11/FLEXBUS0_D3/UART9_RX_M1/I2C8_SDA_M3/GPIO3_B2_D, 59 VO_LCDC_D18/VO_EBC_SDCE2/ETH0_RXD1_M0/PDM1_CLK0_M2/DSMC_DATA12/FLEXBUS0_D4/UART10_TX_M0/SPI4_CSN0_M1/PWM1_CH3_M3/GPIO3_B1_D, 61 VO_LCDC_D0/VO_EBC_SDDO0/ETH0_RXD2_M0/SAI2_SDO_M2/DSMC_CSN0/FLEXBUS1_D2/UART2_CTSN_M2/I3C1_SCL_M2/PWM2_CH5_M3/GPIO3_D3_D, 63 VO_LCDC_D1/VO_EBC_SDDO1/ETH0_RXD3_M0/SAI2_SDI_M2/DSMC_CSN3/FLEXBUS0_D12/FLEXBUS1_D15_M0/FLEXBUS0_CSN_M3/UART2_RTSN_M2/SPI4_CSN1_M1/I3C1_SDA_M2/PWM2_CH4_M3/GPIO3_D2_D, 65 GND, 67 VI_CIF_D4/ETH1_RXD3_M0/ETH0_PPSCLK_M1/SAI2_MCLK_M1/PDM1_CLK1_M0/UART9_TX_M0/SPI1_CSN1_M1/PWM1_CH1_M2/GPIO2_C1_D, 69 VI_CIF_D5/ETH1_RXD2_M0/ETH0_PTP_REFCLK_M1/PDM1_SDI1_M0/UART9_RX_M0/PWM1_CH0_M2/GPIO2_C0_D, 71 CAM_CLK0_OUT_M1/ETH1_RXD1_M0/SAI4_MCLK_M3/UART6_TX_M1/I3C1_SCL_M0/PWM2_CH2_M2/GPIO2_D2_D, 73 ETH1_RXD0_M0/SAI4_SDO_M3/UART4_RX_M0/I2C6_SDA_M2/PWM2_CH1_M2/GPIO2_D1_D, 75 VI_CIF_D3/ETH1_RXCLK_M0/ETH0_PPSTRIG_M1/SAI2_SCLK_M1/PDM1_SDI2_M0/UART11_CTSN_M1/SPI1_MOSI_M1/PWM1_CH2_M2/GPIO2_C2_D, 77 ETH1_RXCTL_M0/UART6_RX_M1/I3C1_SDA_M0/PWM2_CH3_M2/GPIO2_D3_D, 79 GND
part B pins: 2 GND, 4 GND, 6 VI_CIF_D1/ETH1_TXD3_M0/SAI2_SDO_M1/PDM1_SDI0_M0/UART11_TX_M1/SPI1_CSN0_M1/PWM1_CH3_M2/GPIO2_C4_D, 8 VI_CIF_D2/ETH1_TXD2_M0/SAI2_LRCK_M1/PDM1_SDI3_M0/UART11_RTSN_M1/SPI1_MISO_M1/PWM0_CH0_M2/GPIO2_C3_D, 10 ETH1_TXD1_M0/SAI4_LRCK_M3/UART4_RTSN_M0/I2C5_SDA_M2/PWM0_CH1_M2/GPIO2_C7_D, 12 ETH1_TXD0_M0/SAI4_SCLK_M3/UART4_CTSN_M0/I2C5_SCL_M2/PWM1_CH5_M2/GPIO2_C6_D, 14 ETH1_TXCTL_M0/SAI4_SDI_M3/UART4_TX_M0/I2C6_SCL_M2/PWM2_CH0_M2/GPIO2_D0_D, 16 VI_CIF_D0/ETH1_TXCLK_M0/SAI2_SDI_M1/PDM1_CLK0_M0/UART11_RX_M1/SPI1_CLK_M1/PWM1_CH4_M2/GPIO2_C5_D, 18 GND, 20 GND, 22 GND, 24 GND, 26 GND, 28 GND, 30 GND, 32 SAI4_SCLK_M0/PDM1_SDI3_M1/FLEXBUS0_D13_M1/SPI3_MOSI_M2/UART6_TX_M0/I2C4_SCL_M1/CAN0_TX_M2/GPIO4_A4_D, 34 SAI4_LRCK_M0/PDM1_CLK0_M1/FLEXBUS0_D14_M1/SPI3_MISO_M2/UART6_RX_M0/I2C4_SDA_M1/CAN0_RX_M2/GPIO4_A6_D, 36 SAI1_SCLK_M0/FLEXBUS1_CSN_M4/SPI3_CSN0_M2/UART5_RTSN_M1/I2C2_SCL_M2/PWM2_CH4_M1/GPIO4_A3_D, 38 SAI1_LRCK_M0/FLEXBUS1_D12_M1/SPI4_CSN1_M2/UART5_CTSN_M1/I2C2_SDA_M2/PCIE1_CLKREQN_M2/GPIO4_A5_D, 40 SAI1_MCLK_M0/SAI4_MCLK_M0/AUPLL_CLK_IN_M2/PWM2_CH5_M0/GPIO4_A2_D, 42 VO_LCDC_CLK/VO_EBC_SDOE/CAM_CLK0_OUT_M0/SAI4_SCLK_M1/DSMC_RESETN/FLEXBUS0_D15_M0/FLEXBUS1_D12_M0/FLEXBUS1_CSN_M1/UART5_RTSN_M0/SPI3_CSN1_M1/PWM2_CH7_M3/GPIO3_D7_D, 44 VO_LCDC_D5/VO_EBC_SDDO5/SAI1_LRCK_M1/DSMC_DATA3/FLEXBUS1_D5/UART8_TX_M0/SPI1_MOSI_M2/GPIO3_C6_D, 46 VO_LCDC_D4/VO_EBC_SDDO4/SAI1_SCLK_M1/DSMC_DATA2/FLEXBUS1_D4/UART8_RTSN_M0/SPI1_CLK_M2/GPIO3_C7_D, 48 VO_POST_EMPTY/SPDIF_TX0_M1/CAM_CLK2_OUT_M0/SAI4_SDO_M1/DSMC_INT2/FLEXBUS0_D14_M0/FLEXBUS1_D13_M0/FLEXBUS0_CSN_M1/UART3_RX_M1/I2C7_SDA_M2/GPIO4_A1_D, 50 VO_LCDC_D6/VO_EBC_SDDO6/SAI1_SDO0_M1/DSMC_DATA4/FLEXBUS1_D6/UART8_RX_M0/SPI1_MISO_M2/PWM2_CH2_M3/GPIO3_C5_D, 52 VO_LCDC_D7/VO_EBC_SDDO7/SAI1_SDO1_M1/DSMC_DATA5/FLEXBUS1_D7/UART11_TX_M0/SPI2_CSN0_M2/I2C5_SCL_M3/CAN0_TX_M3/GPIO3_C4_D, 54 VO_LCDC_D11/VO_EBC_SDDO11/ETH0_PPSCLK_M0/SAI1_SDO3_M1/DSMC_DATA7/FLEXBUS1_D9/UART2_TX_M2/UART3_RTSN_M1/I2C4_SCL_M3/GPIO3_C0_D, 56 VO_LCDC_HSYNC/VO_EBC_GDCLK/SAI1_SDI2_M1/DSMC_CLKP/FLEXBUS1_D0/UART5_TX_M0/SPI3_MISO_M1/I2C3_SDA_M2/GPIO3_D5_D, 58 VO_LCDC_VSYNC/VO_EBC_SDCLK/SAI1_SDI3_M1/DSMC_CLKN/FLEXBUS1_CLK/UART5_CTSN_M0/SPI3_MOSI_M1/PWM2_CH6_M3/GPIO3_D6_D, 60 VO_LCDC_D10/VO_EBC_SDDO10/ETH0_PTP_REFCLK_M0/SAI1_SDO2_M1/DSMC_DATA6/FLEXBUS1_D8/UART11_RX_M0/SPI2_MISO_M2/I2C5_SDA_M3/CAN0_RX_M3/GPIO3_C1_D, 62 SPDIF_RX0_M1/CAM_CLK1_OUT_M0/SAI4_LRCK_M1/DSMC_INT0/FLEXBUS0_D13_M0/FLEXBUS1_D14_M0/FLEXBUS1_CSN_M3/UART3_TX_M1/SPI1_CSN1_M2/I2C7_SCL_M2/MIPI_TE_M2/GPIO4_A0_D, 64 VO_LCDC_D3/VO_EBC_SDDO3/SAI1_MCLK_M1/DSMC_DATA1/FLEXBUS1_D3/UART8_CTSN_M0/SPI1_CSN0_M2/PWM2_CH3_M3/GPIO3_D0_D, 66 VO_LCDC_D12/VO_EBC_SDDO12/ETH0_PPSTRIG_M0/SAI1_SDI0_M1/DSMC_DQS0/FLEXBUS1_D10/FLEXBUS1_CSN_M0/UART2_RX_M2/UART3_CTSN_M1/I2C4_SDA_M3/GPIO3_B7_D, 68 VO_LCDC_DEN/VO_EBC_SDLE/SAI1_SDI1_M1/DSMC_DATA0/FLEXBUS1_D1/UART5_RX_M0/SPI3_CLK_M1/I2C3_SCL_M2/GPIO3_D4_D, 70 VO_LCDC_D23/VO_EBC_SDSHR/ETH_CLK0_25M_OUT_M0/SAI4_SDI_M1/DSMC_RDYN/FLEXBUS1_D11/FLEXBUS0_CSN_M0/UART1_CTSN_M2/SPI2_CLK_M2/PWM1_CH0_M3/GPIO3_A4_D, 72 GND, 74 GND, 76 GND, 78 GND, 80 GND
part A text: Конт.; Цепь
part B text: Конт.; Цепь

## KH-2AF180DIP-1715
designator X?, comment USB Type A
USB-A (USB TYPE-A) Receptacle Connector 4 Positionx2 Through Hole; Part Number: KH-2AF180DIP-1715; Manufacturer: Kinghelm; ValueBOM: KH-2AF180DIP-1715   Kinghelm; BOM1: KH-2AF180DIP-1715; BOM2: KH-2AF180DIP-1715; Value: USB Type A; Package: USB Type A
footprint KH-2AF180DIP-1715 (USB-A (USB TYPE-A) Receptacle Connector 4 Positionx2 Through Hole)
part A pins: A1, A2, A3, A4, S1, S2
part B pins: B1, B2, B3, B4, S3, S4
part A text: Конт.; Цепь; 1; Vcc; 2; D-; 3; D+; 4; Gnd; 5; Shield; 6
part B text: Конт.; Цепь; 1; Vcc; 2; D-; 3; D+; 4; Gnd; 5; Shield; 6

## L-KLS1-SMA002-B
designator X?, comment SMA-JR
L-KLS1-SMA002-B Right Angle SMA Thru Hole RF Connector; Manufacturer: KLS; ValueBOM: L-KLS1-SMA002-B   KLS; Value: SMA-JR; Part Number: L-KLS1-SMA002-B; Package: SMA-JR; BOM1: L-KLS1-SMA002-B; BOM2: L-KLS1-SMA002-B
footprint CONN SMA RCPT R/A 50 OHM PCB
pins: 1 GND, 2 GND, 3 GND, 4 GND, 5 IN
text: Конт.; Цепь

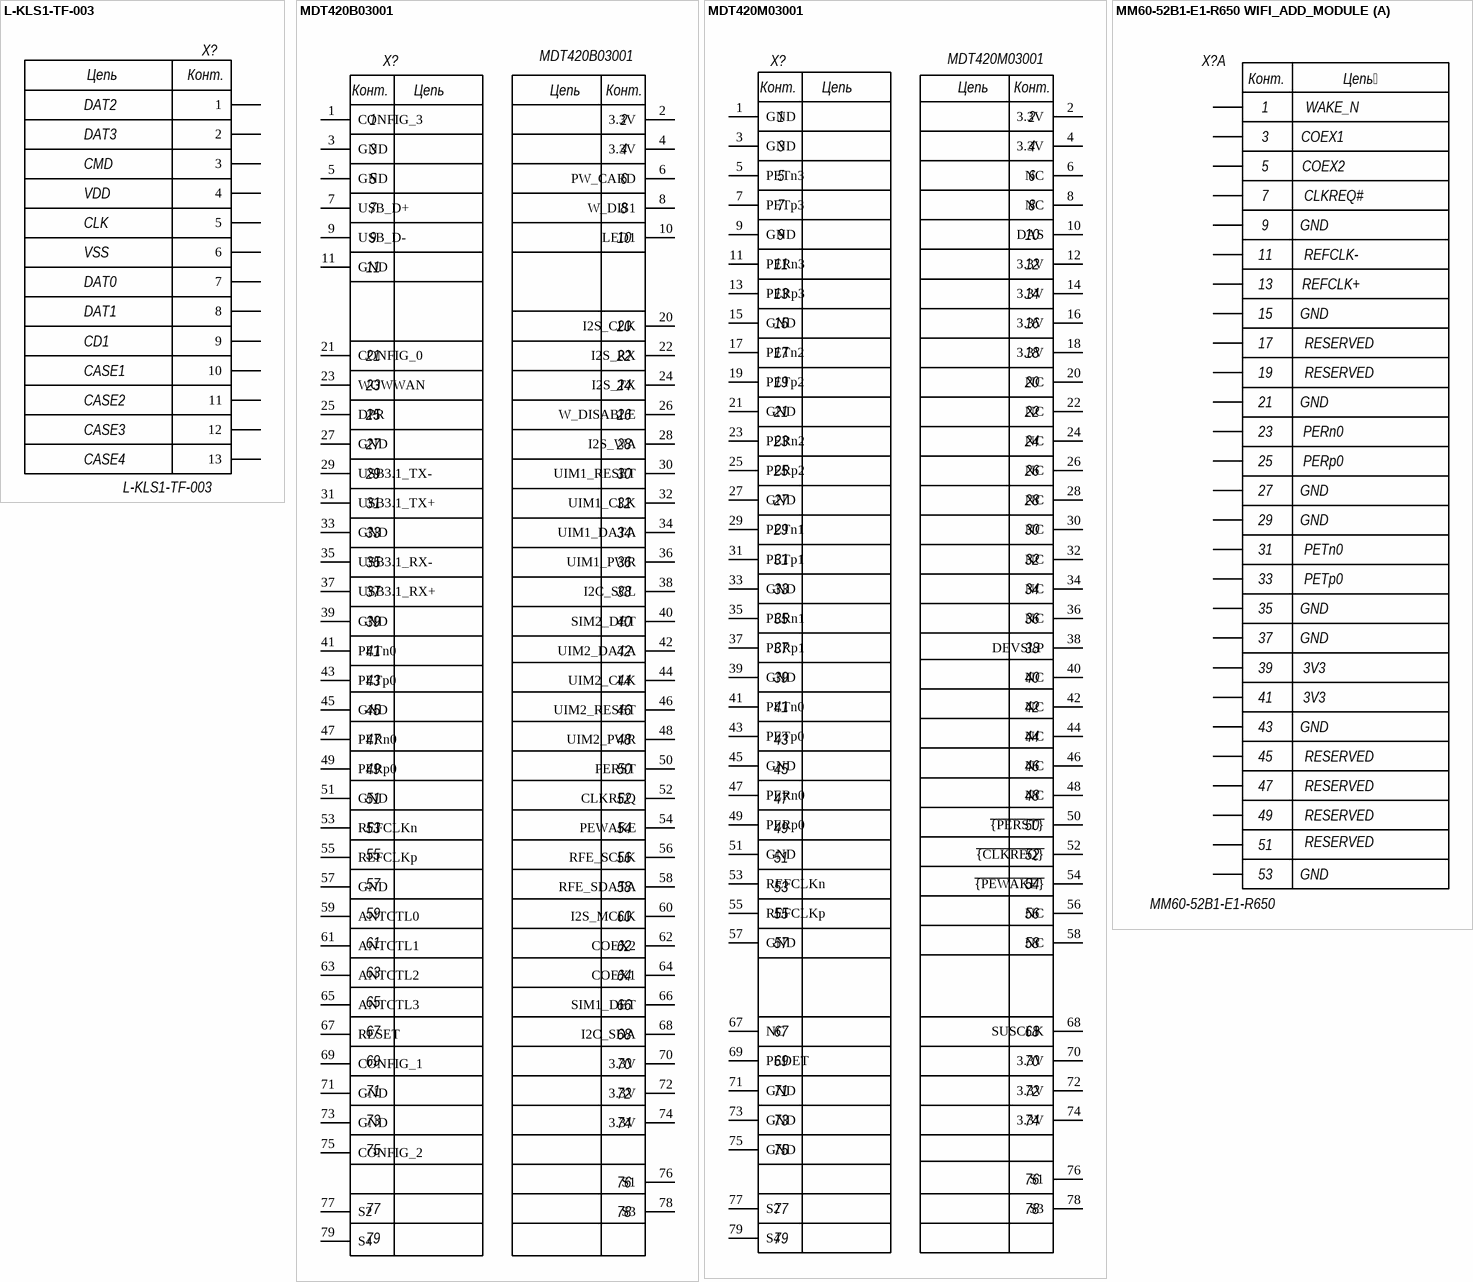
[diagram p11: symbols L-KLS1-TF-003 to MM60-52B1-E1-R650 WIFI_ADD_MODULE]

## L-KLS1-TF-003
designator X?
microSD Memory Card Connector; Manufacturer: Connfly electronic; BOM1: MicroSD L-KLS1-TF-003; ValueBOM: L-KLS1-TF-003   Connfly electronic; Part Number: L-KLS1-TF-003; Value: L-KLS1-TF-003; Package: MicroSD cокет; BOM2: MicroSD L-KLS1-TF-003
footprint L-KLS1-TF-003-H1.85-R
footprint L-KLS1-TF-003-H1.85-R_
pins: 1, 2, 3, 4, 5, 6, 7, 8, 9, 10, 11, 12, 13
text: Цепь; Конт.; DAT2; DAT3; CMD; VDD; CLK; VSS; DAT0; DAT1; CD1; CASE1; CASE2; CASE3; CASE4

## MDT420B03001
designator X?
Amphenol MDT420B03001 Key B  0.5mm 67P Surface Mount, Right Angle SMD,P=0.5mm,Surface Mount,Right Angle Edgeboard Connectors RoHS; BOM1: SMD,P=0.5mm MDT420B03001; ValueBOM: MDT420B03001   Amphenol; Value: MDT420B03001; Part Number: MDT420B03001; Manufacturer: Amphenol; Package: MDT420B03001; BOM2: SMD,P=0.5mm MDT420B03001
footprint AMPHENOL_MDT420B03001 LTE 4G (PCIe M.2 Connectors, Storage and Server Connector, P=0.5mm, H=4.2mm, Key B,Gold Plating)
footprint AMPHENOL_MDT420B03001 (PCIe M.2 Connectors, Storage and Server Connector, P=0.5mm, H=4.2mm, Key B,Gold Plating)
pins: 1 CONFIG_3, 2 3.3V, 3 GND, 4 3.3V, 5 GND, 6 PW_CARD, 7 USB_D+, 8 W_DIS1, 9 USB_D-, 10 LED1, 11 GND, 20 I2S_CLK, 21 CONFIG_0, 22 I2S_RX, 23 WOWWAN, 24 I2S_TX, 25 DPR, 26 W_DISABLE, 27 GND, 28 I2S_WA, 29 USB3.1_TX-, 30 UIM1_RESET, 31 USB3.1_TX+, 32 UIM1_CLK, 33 GND, 34 UIM1_DATA, 35 USB3.1_RX-, 36 UIM1_PWR, 37 USB3.1_RX+, 38 I2C_SCL, 39 GND, 40 SIM2_DET, 41 PETn0, 42 UIM2_DATA, 43 PETp0, 44 UIM2_CLK, 45 GND, 46 UIM2_RESET, 47 PERn0, 48 UIM2_PWR, 49 PERp0, 50 PERST, 51 GND, 52 CLKREQ, 53 REFCLKn, 54 PEWAKE, 55 REFCLKp, 56 RFE_SCLK, 57 GND, 58 RFE_SDATA, 59 ANTCTL0, 60 I2S_MCLK, 61 ANTCTL1, 62 COEX2, 63 ANTCTL2, 64 COEX1, 65 ANTCTL3, 66 SIM1_DET, 67 RESET, 68 I2C_SDA, 69 CONFIG_1, 70 3.3V, 71 GND, 72 3.3V, 73 GND, 74 3.3V, 75 CONFIG_2, 76 S1, 77 S2, 78 S3, 79 S4
text: Конт.; Цепь

## MDT420M03001
designator X?
Amphenol MDT420M03001 Key M 0.5mm 67P Surface Mount, Right Angle SMD,P=0.5mm,Surface Mount,Right Angle Edgeboard Connectors RoHS; BOM1: SMD,P=0.5mm MDT420M03001; ValueBOM: MDT420M03001   Amphenol; Value: MDT420M03001; Part Number: MDT420M03001; Manufacturer: Amphenol; Package: MDT420M03001; BOM2: SMD,P=0.5mm MDT420M03001
footprint AMPHENOL_MDT420M03001 SSD 2280 (PCIe M.2 Connectors, Storage and Server Connector, P=0.5mm, H=4.2mm, Key M,Gold Plating)
footprint AMPHENOL_MDT420M03001 (PCIe M.2 Connectors, Storage and Server Connector, P=0.5mm, H=4.2mm, Key M,Gold Plating)
pins: 1 GND, 2 3.3V, 3 GND, 4 3.3V, 5 PETn3, 6 NC, 7 PETp3, 8 NC, 9 GND, 10 DAS, 11 PERn3, 12 3.3V, 13 PERp3, 14 3.3V, 15 GND, 16 3.3V, 17 PETn2, 18 3.3V, 19 PETp2, 20 NC, 21 GND, 22 NC, 23 PERn2, 24 NC, 25 PERp2, 26 NC, 27 GND, 28 NC, 29 PETn1, 30 NC, 31 PETp1, 32 NC, 33 GND, 34 NC, 35 PERn1, 36 NC, 37 PERp1, 38 DEVSLP, 39 GND, 40 NC, 41 PETn0, 42 NC, 43 PETp0, 44 NC, 45 GND, 46 NC, 47 PERn0, 48 NC, 49 PERp0, 50 ~{{PERST}}, 51 GND, 52 ~{{CLKREQ}}, 53 REFCLKn, 54 ~{{PEWAKE}}, 55 REFCLKp, 56 NC, 57 GND, 58 NC, 67 NC, 68 SUSCLK, 69 PEDET, 70 3.3V, 71 GND, 72 3.3V, 73 GND, 74 3.3V, 75 GND, 76 S1, 77 S2, 78 S3, 79 S4
text: Конт.; Цепь

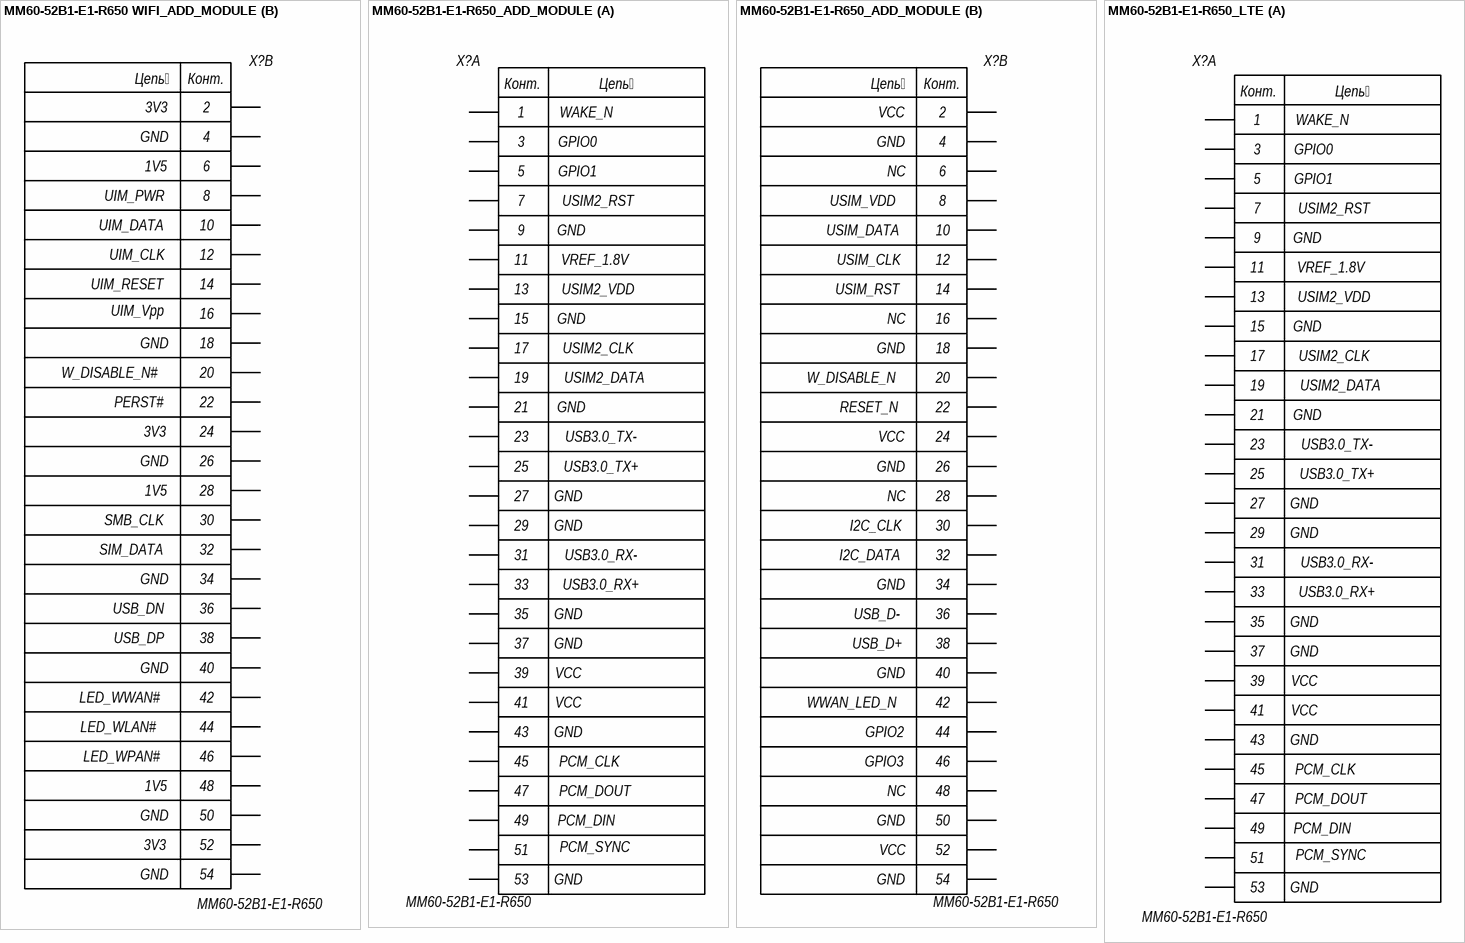
[diagram p12: symbols MM60-52B1-E1-R650 WIFI_ADD_MODULE to MM60-52B1-E1-R650_LTE]

## MM60-52B1-E1-R650 WIFI_ADD_MODULE
designator X?, comment MM60-52B1-E1-R650
Manufacturer: JAE Electronics; ValueBOM: MM60-52B1-E1-R650   JAE Electronics; Part Number: MM60-52B1-E1-R650; BOM1: MM60-52B1-E1-R650; BOM2: MM60-52B1-E1-R650; Value: MM60-52B1-E1-R650; Package: MM60-52B1-E1-R650
footprint MM60-52B1-E1-R650_ADD_MODEM
pins on every part: unused1 hidden, unused2 hidden
part A pins: 1, 3, 5, 7, 9, 11, 13, 15, 17, 19, 21, 23, 25, 27, 29, 31, 33, 35, 37, 39, 41, 43, 45, 47, 49, 51, 53, unused3 hidden, unused4 hidden
part B pins: 2, 4, 6, 8, 10, 12, 14, 16, 18, 20, 22, 24, 26, 28, 30, 32, 34, 36, 38, 40, 42, 44, 46, 48, 50, 52, 54
part A text: Конт.; Цепь; WAKE_N; COEX1; COEX2; CLKREQ#; GND; REFCLK-; REFCLK+; RESERVED; PERn0; PERp0; PETn0; PETp0; 3V3
part B text: Цепь; Конт.; 3V3; GND; 1V5; UIM_PWR; UIM_DATA; UIM_CLK; UIM_RESET; UIM_Vpp; W_DISABLE_N#; PERST#; SMB_CLK; SIM_DATA; USB_DN; USB_DP; LED_WWAN#; LED_WLAN#; LED_WPAN#

## MM60-52B1-E1-R650_ADD_MODULE
designator X?, comment MM60-52B1-E1-R650
Manufacturer: JAE Electronics; ValueBOM: MM60-52B1-E1-R650   JAE Electronics; Part Number: MM60-52B1-E1-R650; BOM1: MM60-52B1-E1-R650; BOM2: MM60-52B1-E1-R650; Value: MM60-52B1-E1-R650; Package: MM60-52B1-E1-R650
footprint MM60-52B1-E1-R650_ADD_MODEM
pins on every part: unused1 hidden, unused2 hidden
part A pins: 1, 3, 5, 7, 9, 11, 13, 15, 17, 19, 21, 23, 25, 27, 29, 31, 33, 35, 37, 39, 41, 43, 45, 47, 49, 51, 53, unused3 hidden, unused4 hidden
part B pins: 2, 4, 6, 8, 10, 12, 14, 16, 18, 20, 22, 24, 26, 28, 30, 32, 34, 36, 38, 40, 42, 44, 46, 48, 50, 52, 54
part A text: Конт.; Цепь; WAKE_N; GPIO0; GPIO1; USIM2_RST; GND; VREF_1.8V; USIM2_VDD; USIM2_CLK; USIM2_DATA; USB3.0_TX-; USB3.0_TX+; USB3.0_RX-; USB3.0_RX+; VCC; PCM_CLK; PCM_DOUT; PCM_DIN; PCM_SYNC
part B text: Цепь; Конт.; VCC; GND; NC; USIM_VDD; USIM_DATA; USIM_CLK; USIM_RST; W_DISABLE_N; RESET_N; I2C_CLK; I2C_DATA; USB_D-; USB_D+; WWAN_LED_N; GPIO2; GPIO3

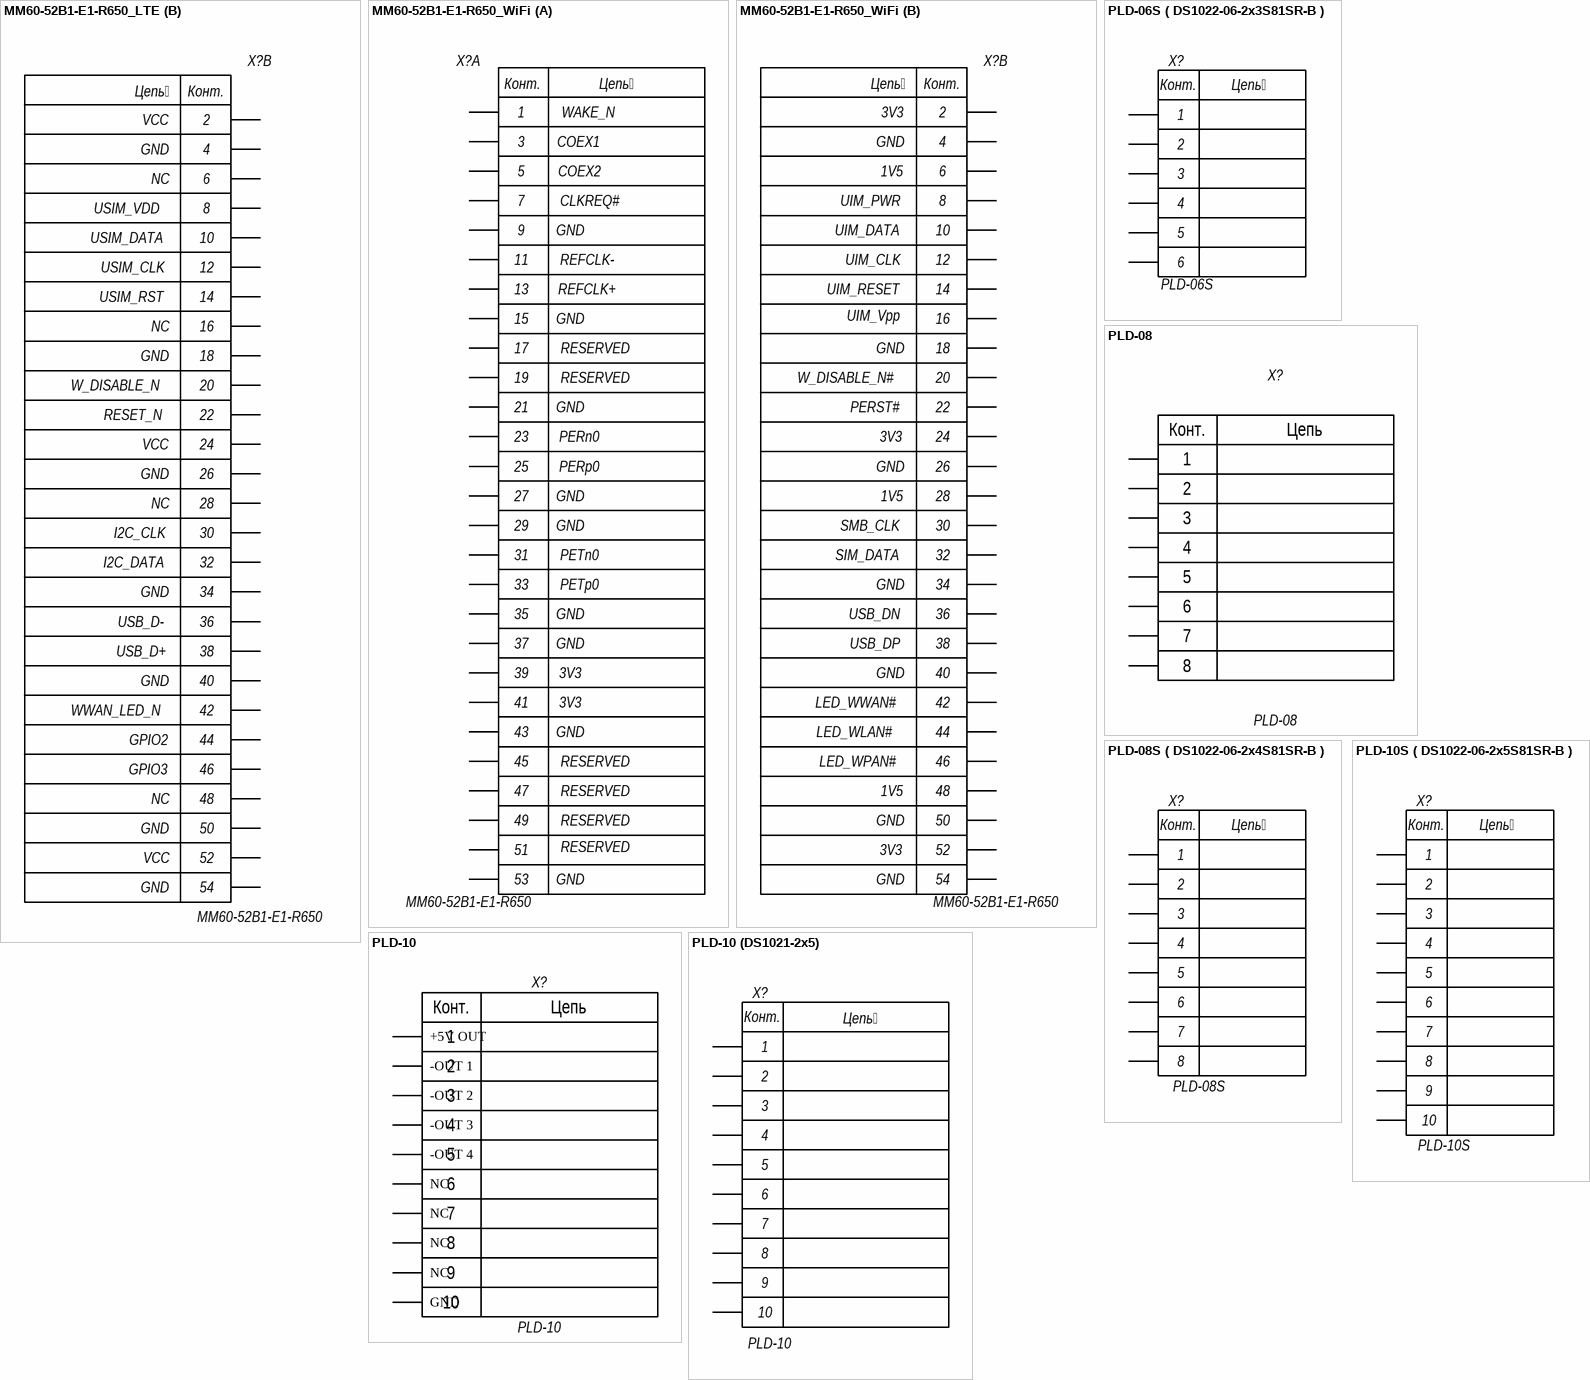
[diagram p13: symbols MM60-52B1-E1-R650_LTE to PLD-10S ( DS1022-06-2x5S81SR-B )]

## MM60-52B1-E1-R650_LTE
designator X?, comment MM60-52B1-E1-R650
Manufacturer: JAE Electronics; ValueBOM: MM60-52B1-E1-R650   JAE Electronics; Part Number: MM60-52B1-E1-R650; BOM1: MM60-52B1-E1-R650; BOM2: MM60-52B1-E1-R650; Value: MM60-52B1-E1-R650; Package: MM60-52B1-E1-R650
footprint MM60-52B1-E1-R650
footprint MM60-52B1-E1-R650_ADD_MODEM_NOT_NT4
pins on every part: unused1 hidden, unused2 hidden
part A pins: 1, 3, 5, 7, 9, 11, 13, 15, 17, 19, 21, 23, 25, 27, 29, 31, 33, 35, 37, 39, 41, 43, 45, 47, 49, 51, 53
part B pins: 2, 4, 6, 8, 10, 12, 14, 16, 18, 20, 22, 24, 26, 28, 30, 32, 34, 36, 38, 40, 42, 44, 46, 48, 50, 52, 54
part A text: Конт.; Цепь; WAKE_N; GPIO0; GPIO1; USIM2_RST; GND; VREF_1.8V; USIM2_VDD; USIM2_CLK; USIM2_DATA; USB3.0_TX-; USB3.0_TX+; USB3.0_RX-; USB3.0_RX+; VCC; PCM_CLK; PCM_DOUT; PCM_DIN; PCM_SYNC
part B text: Цепь; Конт.; VCC; GND; NC; USIM_VDD; USIM_DATA; USIM_CLK; USIM_RST; W_DISABLE_N; RESET_N; I2C_CLK; I2C_DATA; USB_D-; USB_D+; WWAN_LED_N; GPIO2; GPIO3

## MM60-52B1-E1-R650_WiFi
designator X?, comment MM60-52B1-E1-R650
Manufacturer: JAE Electronics; ValueBOM: MM60-52B1-E1-R650   JAE Electronics; Part Number: MM60-52B1-E1-R650; BOM1: MM60-52B1-E1-R650; BOM2: MM60-52B1-E1-R650; Value: MM60-52B1-E1-R650; Package: MM60-52B1-E1-R650
footprint MM60-52B1-E1-R650
footprint MM60-52B1-E1-R650_ADD_MODEM_NOT_NT4
pins on every part: unused1 hidden, unused2 hidden
part A pins: 1, 3, 5, 7, 9, 11, 13, 15, 17, 19, 21, 23, 25, 27, 29, 31, 33, 35, 37, 39, 41, 43, 45, 47, 49, 51, 53
part B pins: 2, 4, 6, 8, 10, 12, 14, 16, 18, 20, 22, 24, 26, 28, 30, 32, 34, 36, 38, 40, 42, 44, 46, 48, 50, 52, 54
part A text: Конт.; Цепь; WAKE_N; COEX1; COEX2; CLKREQ#; GND; REFCLK-; REFCLK+; RESERVED; PERn0; PERp0; PETn0; PETp0; 3V3
part B text: Цепь; Конт.; 3V3; GND; 1V5; UIM_PWR; UIM_DATA; UIM_CLK; UIM_RESET; UIM_Vpp; W_DISABLE_N#; PERST#; SMB_CLK; SIM_DATA; USB_DN; USB_DP; LED_WWAN#; LED_WLAN#; LED_WPAN#

## PLD-06S ( DS1022-06-2x3S81SR-B )
designator X?, comment PLD-06S
PLD-06S 6 Pin Header 2.54mm 2 Row H=1.5/1.7/2.5mm SMT Type; Part Number: PLD-06S ( DS1022-06-2x3S81SR-B ); Manufacturer: Connfly electronic; ValueBOM: PLD-06S ( DS1022-06-2x3S81SR-B )   Connfly electronic; Value: PLD-06S; Package: PLD-06S; BOM1: PLD-06S ( DS1022-06-2x3S81SR-B ); BOM2: PLD-06S ( DS1022-06-2x3S81SR-B )
footprint PLD-06S (Pin Header 2.54mm 2 Row H=1.5/1.7/2.5mm SMT Type)
pins: 1, 2, 3, 4, 5, 6
text: Конт.; Цепь

## PLD-08
designator X?
STD-M-ST-2.54-2x4-TH; Manufacturer: Connfly; Mating Parts: BLD-08;PBD-08; Connector Type: STD Header; Gender: Male; Mounting Angle: Vertical; Pitch: 2.54; Part Number: PLD-08; Value: PLD-08; Package: 2x4-2.54mm; Temperature Range: -40…+105 °C; Mounting Style: Through Hole; Number of Rows: 2; Number of Pins: 8
footprint HEADER-2.54-2X4-ST
pins: 1, 2, 3, 4, 5, 6, 7, 8
text: Конт.; Цепь

## PLD-08S ( DS1022-06-2x4S81SR-B )
designator X?, comment PLD-08S
PLD-08S 8 Pin Header 2.54mm 2 Row H=1.5/1.7/2.5mm SMT Type; Part Number: PLD-08S ( DS1022-06-2x4S81SR-B ); Manufacturer: Connfly electronic; ValueBOM: PLD-08S ( DS1022-06-2x4S81SR-B )   Connfly electronic; Value: PLD-08S; Package: PLD-08S; BOM1: PLD-08S ( DS1022-06-2x4S81SR-B ); BOM2: PLD-08S ( DS1022-06-2x4S81SR-B )
footprint PLD-08S (Pin Header 2.54mm 2 Row H=1.5/1.7/2.5mm SMT Type)
pins: 1, 2, 3, 4, 5, 6, 7, 8
text: Конт.; Цепь

## PLD-10
designator X?
STD-M-ST-2.54-2x5-TH; Manufacturer: Connfly; Mating Parts: BLD-10;PBD-10; Connector Type: STD Header; Gender: Male; Mounting Angle: Vertical; Pitch: 2.54; Part Number: PLD-10; Value: PLD-10; Package: 2x5-2.54mm; Temperature Range: -40…+105 °C; Mounting Style: Through Hole; Number of Rows: 2; Number of Pins: 10
footprint HEADER-2.54-2X5-ST
pins: 1 +5V OUT, 2 -OUT 1, 3 -OUT 2, 4 -OUT 3, 5 -OUT 4, 6 NC, 7 NC, 8 NC, 9 NC, 10 GND
text: Конт.; Цепь

## PLD-10 (DS1021-2x5)
designator X?, comment PLD-10
2.54mm 2x5pin straight pin plug; Part Number: DS1021-2x5; Manufacturer: Connfly electronic; BOM1: PLD-10 (DS1021-2x5); ValueBOM: DS1021-2x5   Connfly electronic; Value: PLD-10; Package: PLD-10; BOM2: PLD-10 (DS1021-2x5)
footprint HEADER-2.54-2X5-ST
pins: 1, 2, 3, 4, 5, 6, 7, 8, 9, 10
text: Конт.; Цепь

## PLD-10S ( DS1022-06-2x5S81SR-B )
designator X?, comment PLD-10S
PLD-10S 10 Pin Header 2.54mm 2 Row H=1.5/1.7/2.5mm SMT Type; Part Number: PLD-10S ( DS1022-06-2x5S81SR-B ); Manufacturer: Connfly electronic; ValueBOM: PLD-10S ( DS1022-06-2x5S81SR-B )   Connfly electronic; Value: PLD-10S; Package: PLD-10S; BOM1: PLD-10S ( DS1022-06-2x5S81SR-B ); BOM2: PLD-10S ( DS1022-06-2x5S81SR-B )
footprint PLD-10S (Pin Header 2.54mm 2 Row H=1.5/1.7/2.5mm SMT Type)
pins: 1, 2, 3, 4, 5, 6, 7, 8, 9, 10
text: Конт.; Цепь

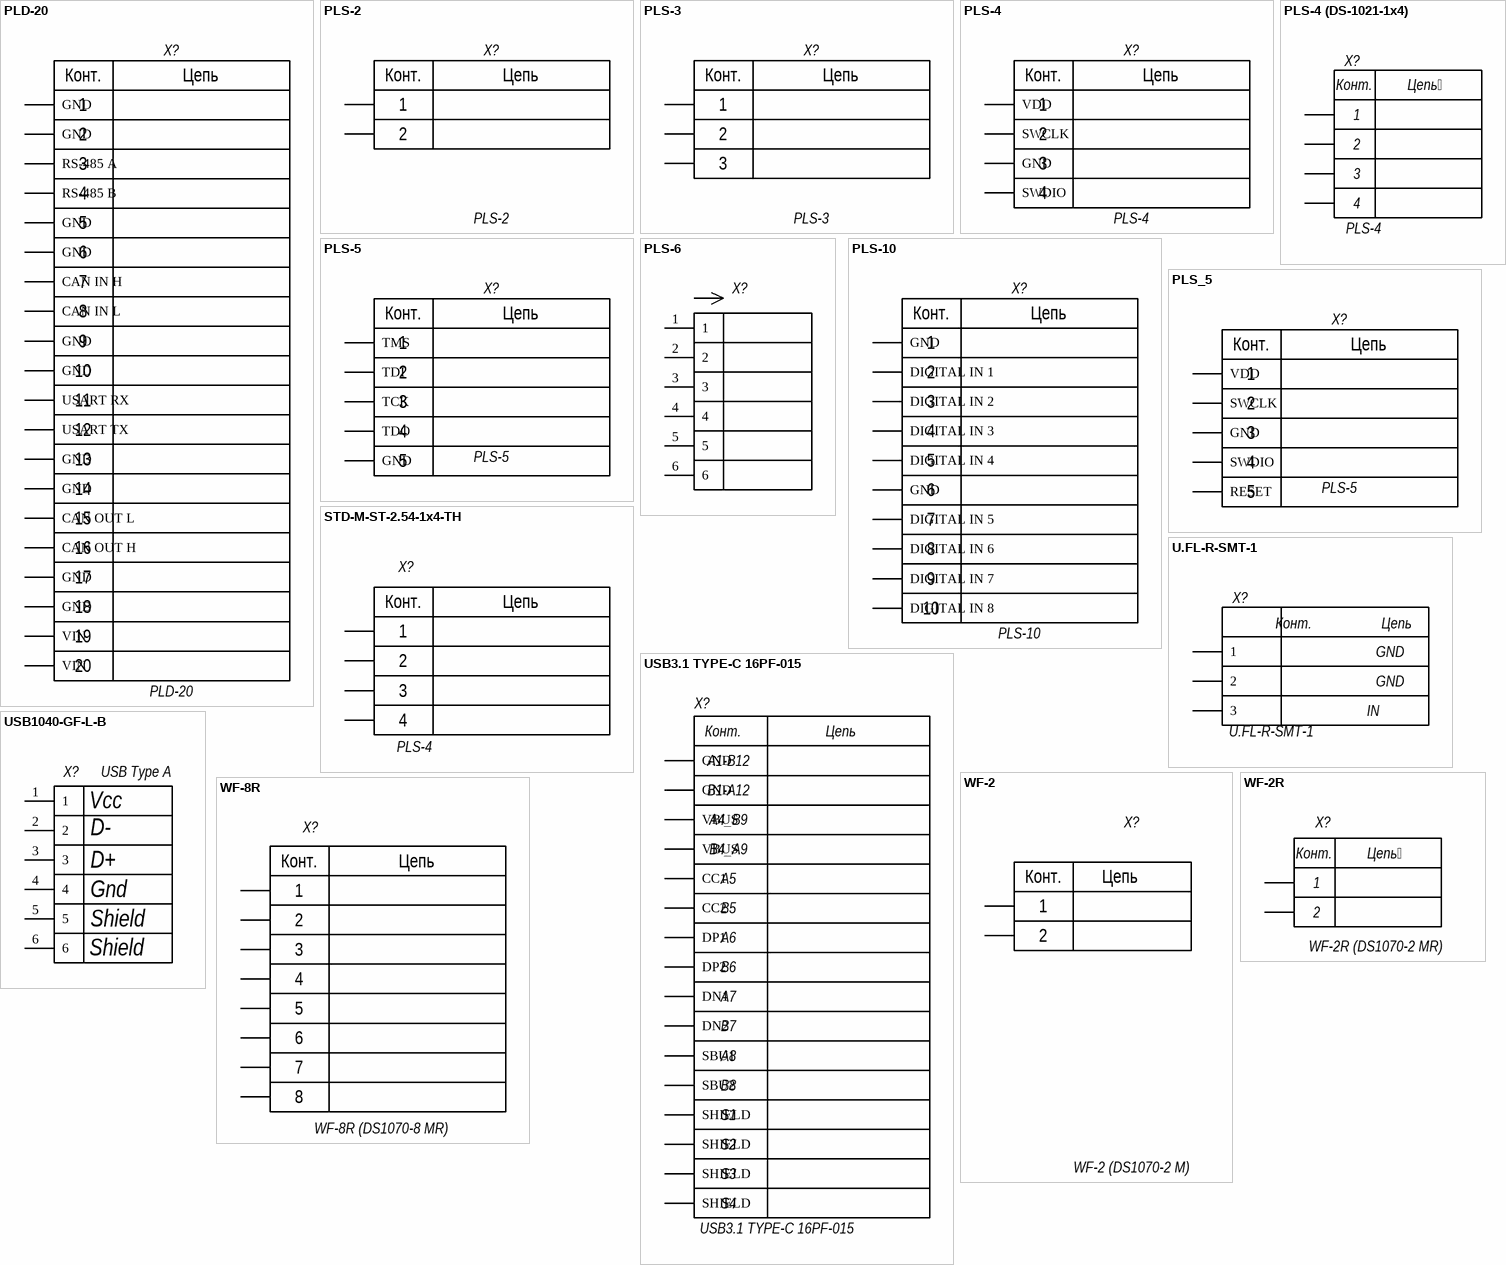
[diagram p14: symbols PLD-20 to WF-8R]

## PLD-20
designator X?
STD-M-ST-2.54-2x10-TH; Manufacturer: Connfly; Mating Parts: BLD-20;PBD-20; Connector Type: STD Header; Gender: Male; Mounting Angle: Vertical; Pitch: 2.54; Part Number: PLD-20; Value: PLD-20; Package: 2x10-2.54mm; Temperature Range: -40…+105 °C; Mounting Style: Through Hole; Number of Rows: 2; Number of Pins: 20
footprint HEADER-2.54-2X10-ST
pins: 1 GND, 2 GND, 3 RS-485 A, 4 RS-485 B, 5 GND, 6 GND, 7 CAN IN H, 8 CAN IN L, 9 GND, 10 GND, 11 USART RX, 12 USART TX, 13 GND, 14 GND, 15 CAN OUT L, 16 CAN OUT H, 17 GND, 18 GND, 19 VIN, 20 VIN
text: Конт.; Цепь

## PLS-2
designator X?
STD-M-ST-2.54-1x2-TH; Manufacturer: Connfly; Mating Parts: BLS-2;PBS-2; Connector Type: STD Header; Gender: Male; Mounting Angle: Vertical; Pitch: 2.54; Part Number: PLS-2; Value: PLS-2; Package: 1x2-2.54mm; Temperature Range: -40…+105 °C; Mounting Style: Through Hole; Number of Rows: 1; Number of Pins: 2
footprint HEADER-2.54-1X2-ST
pins: 1 VDD, 2 SWCLK
text: Конт.; Цепь

## PLS-3
designator X?
STD-M-ST-2.54-1x3-TH; Manufacturer: Connfly; Mating Parts: BLS-3;PBS-3; Connector Type: STD Header; Gender: Male; Mounting Angle: Vertical; Pitch: 2.54; Part Number: PLS-3; Value: PLS-3; Package: 1x3-2.54mm; Temperature Range: -40…+105 °C; Mounting Style: Through Hole; Number of Rows: 1; Number of Pins: 3
footprint HEADER-2.54-1X3-ST
pins: 1, 2, 3
text: Конт.; Цепь

## PLS-4
designator X?
STD-M-ST-2.54-1x4-TH; Manufacturer: Connfly; Mating Parts: BLS-4;PBS-4; Connector Type: STD Header; Gender: Male; Mounting Angle: Vertical; Pitch: 2.54; Part Number: PLS-4; Value: PLS-4; Package: 1x4-2.54mm; Temperature Range: -40…+105 °C; Mounting Style: Through Hole; Number of Rows: 1; Number of Pins: 4
footprint HEADER-2.54-1X4-ST
pins: 1 VDD, 2 SWCLK, 3 GND, 4 SWDIO
text: Конт.; Цепь

## PLS-4 (DS-1021-1x4)
designator X?, comment PLS-4
PLS-4 4 Pin Header 2.54mm; Part Number: PLS-4 (DS-1021-1x4); Manufacturer: Connfly Electronic; ValueBOM: PLS-4 (DS-1021-1x4)   Connfly Electronic; Value: PLS-4; Package: PLS-4; BOM1: PLS-4 (DS-1021-1x4); BOM2: PLS-4 (DS-1021-1x4)
footprint PLS-4
pins: 1, 2, 3, 4
text: Конт.; Цепь

## PLS-5
designator X?
STD-M-ST-2.54-1x5-TH; Manufacturer: Connfly; Mating Parts: BLS-5;PBS-5; Connector Type: STD Header; Gender: Male; Mounting Angle: Vertical; Pitch: 2.54; Part Number: PLS-5; Value: PLS-5; Package: 1x5-2.54mm; Temperature Range: -40…+105 °C; Mounting Style: Through Hole; Number of Rows: 1; Number of Pins: 5
footprint HEADER-2.54-1X5-ST
pins: 1 TMS, 2 TDI, 3 TCK, 4 TDO, 5 GND
text: Конт.; Цепь

## PLS-6
designator X?
2.54mm PIN Header 1X6P Straight Type H=2.5mm Full Gold Flash Plating.; Value: PLS-6; Published: 07.03.2013; Publisher: Andrew Danich; Type: Вилка
footprint PLS-6
pins: 1, 2, 3, 4, 5, 6

## PLS-10
designator X?
STD-M-ST-2.54-1x10-TH; Manufacturer: Connfly; Mating Parts: BLS-10;PBS-10; Connector Type: STD Header; Gender: Male; Mounting Angle: Vertical; Pitch: 2.54; Part Number: PLS-10; Value: PLS-10; Package: 1x10-2.54mm; Temperature Range: -40…+105 °C; Mounting Style: Through Hole; Number of Rows: 1; Number of Pins: 10
footprint HEADER-2.54-1X10-ST
pins: 1 GND, 2 DIGITAL IN 1, 3 DIGITAL IN 2, 4 DIGITAL IN 3, 5 DIGITAL IN 4, 6 GND, 7 DIGITAL IN 5, 8 DIGITAL IN 6, 9 DIGITAL IN 7, 10 DIGITAL IN 8
text: Конт.; Цепь

## PLS_5
designator X?, comment PLS-5
STD-M-ST-2.54-1x5-TH; Manufacturer: Connfly; Mating Parts: BLS-5;PBS-5; Connector Type: STD Header; Gender: Male; Mounting Angle: Vertical; Pitch: 2.54; Part Number: PLS-5; Value: PLS-5; Package: 1x5-2.54mm; Temperature Range: -40…+105 °C; Mounting Style: Through Hole; Number of Rows: 1; Number of Pins: 5
footprint HEADER-2.54-1X5-ST
pins: 1 VDD, 2 SWCLK, 3 GND, 4 SWDIO, 5 RESET
text: Конт.; Цепь

## STD-M-ST-2.54-1x4-TH
designator X?, comment PLS-4
STD-M-ST-2.54-1x4-TH; Manufacturer: Connfly; BOM1: 2.54mm PLS-4 STD-M-ST-2.54-1x4-TH; ValueBOM: STD-M-ST-2.54-1x4-TH   Connfly; Value: PLS-4; Part Number: STD-M-ST-2.54-1x4-TH; Package: 2.54mm PLS-4; BOM2: 2.54mm PLS-4 STD-M-ST-2.54-1x4-TH
footprint PLS-4
pins: 1, 2, 3, 4
text: Конт.; Цепь

## U.FL-R-SMT-1
designator X?
Manufacturer: Hirose Electric; ValueBOM: U.FL-R-SMT-1   Hirose Electric; Value: U.FL-R-SMT-1; Part Number: U.FL-R-SMT-1; Package: U.FL-R-SMT-1; BOM1: U.FL-R-SMT-1; BOM2: U.FL-R-SMT-1
footprint U.FL-R-SMT
pins: 1, 2, 3
text: Конт.; Цепь; GND; IN

## USB3.1 TYPE-C 16PF-015
designator X?
USB 3.1 C Type Female with Peg; Manufacturer: RUICHI; ValueBOM: USB3.1 TYPE-C 16PF-015   RUICHI; Part Number: USB3.1 TYPE-C 16PF-015; Package: USB3.1 TYPE-C 16PF-015; Value: USB3.1 TYPE-C 16PF-015; BOM1: USB3.1 TYPE-C 16PF-015; BOM2: USB3.1 TYPE-C 16PF-015
footprint USB3.1 TYPE-C 16PF-015
pins: A1_B12 GND, A4_B9 VBUS, A5 CC1, A6 DP1, A7 DN1, A8 SBU1, B1_A12 GND, B4_A9 VBUS, B5 CC2, B6 DP2, B7 DN2, B8 SBU2, S1 SHIELD, S2 SHIELD, S3 SHIELD, S4 SHIELD
text: Конт.; Цепь; A1-B12; B1-A12

## USB1040-GF-L-B
designator X?, comment USB Type A
USB Connector, USB Type A, USB 2.0, Receptacle, 4 Ways, Through Hole Mount, Vertical; Part Number: USB1040-GF-L-B; Manufacturer: GCT; ValueBOM: USB1040-GF-L-B   GCT; BOM1: USB1040-GF-L-B; BOM2: USB1040-GF-L-B; Value: USB Type A; Package: USB Type A
footprint USB1040GFLB
pins: 1, 2, 3, 4, 5, 6
text: Vcc; D-; D+; Gnd; Shield

## WF-2
designator X?, comment WF-2 (DS1070-2 M)
Manufacturer: Connfly; Mating Parts: HU-2 (DS1070-2 F); Connector Type: STD Header; Gender: Male; Mounting Angle: Horizontal; Pitch: 2.54; Part Number: WF-2 (DS1070-2 M); Value: WF-2 (DS1070-2 M); Package: 2-2.54mm; Temperature Range: -40…+105 °C; Mounting Style: Through Hole; Number of Rows: 1; Number of Pins: 2
footprint WF-2
pins: 1, 2
text: Конт.; Цепь

## WF-2R
designator X?, comment WF-2R (DS1070-2 MR)
Manufacturer: Connfly; BOM1: 2x2.54 мм WF-2R; ValueBOM: WF-2R   Connfly; Part Number: WF-2R; Value: WF-2R; Package: 2x2.54 mm; BOM2: 2x2.54 мм WF-2R
footprint WF-2RR
pins: 1, 2
text: Конт.; Цепь

## WF-8R
designator X?, comment WF-8R (DS1070-8 MR)
Manufacturer: Connfly; Mating Parts: HU-8 (DS1070-8 F); Connector Type: STD Header; Gender: Male; Mounting Angle: Horizontal; Pitch: 2.54; Part Number: WF-8R; Value: WF-8R; Package: 8-2.54mm; Temperature Range: -40…+105 °C; Mounting Style: Through Hole; Number of Rows: 1; Number of Pins: 8
footprint WF-8R
pins: 1, 2, 3, 4, 5, 6, 7, 8
text: Конт.; Цепь